# Altium integrated library NXP LPC2000.IntLib: 82 symbols (part 5 of 6)
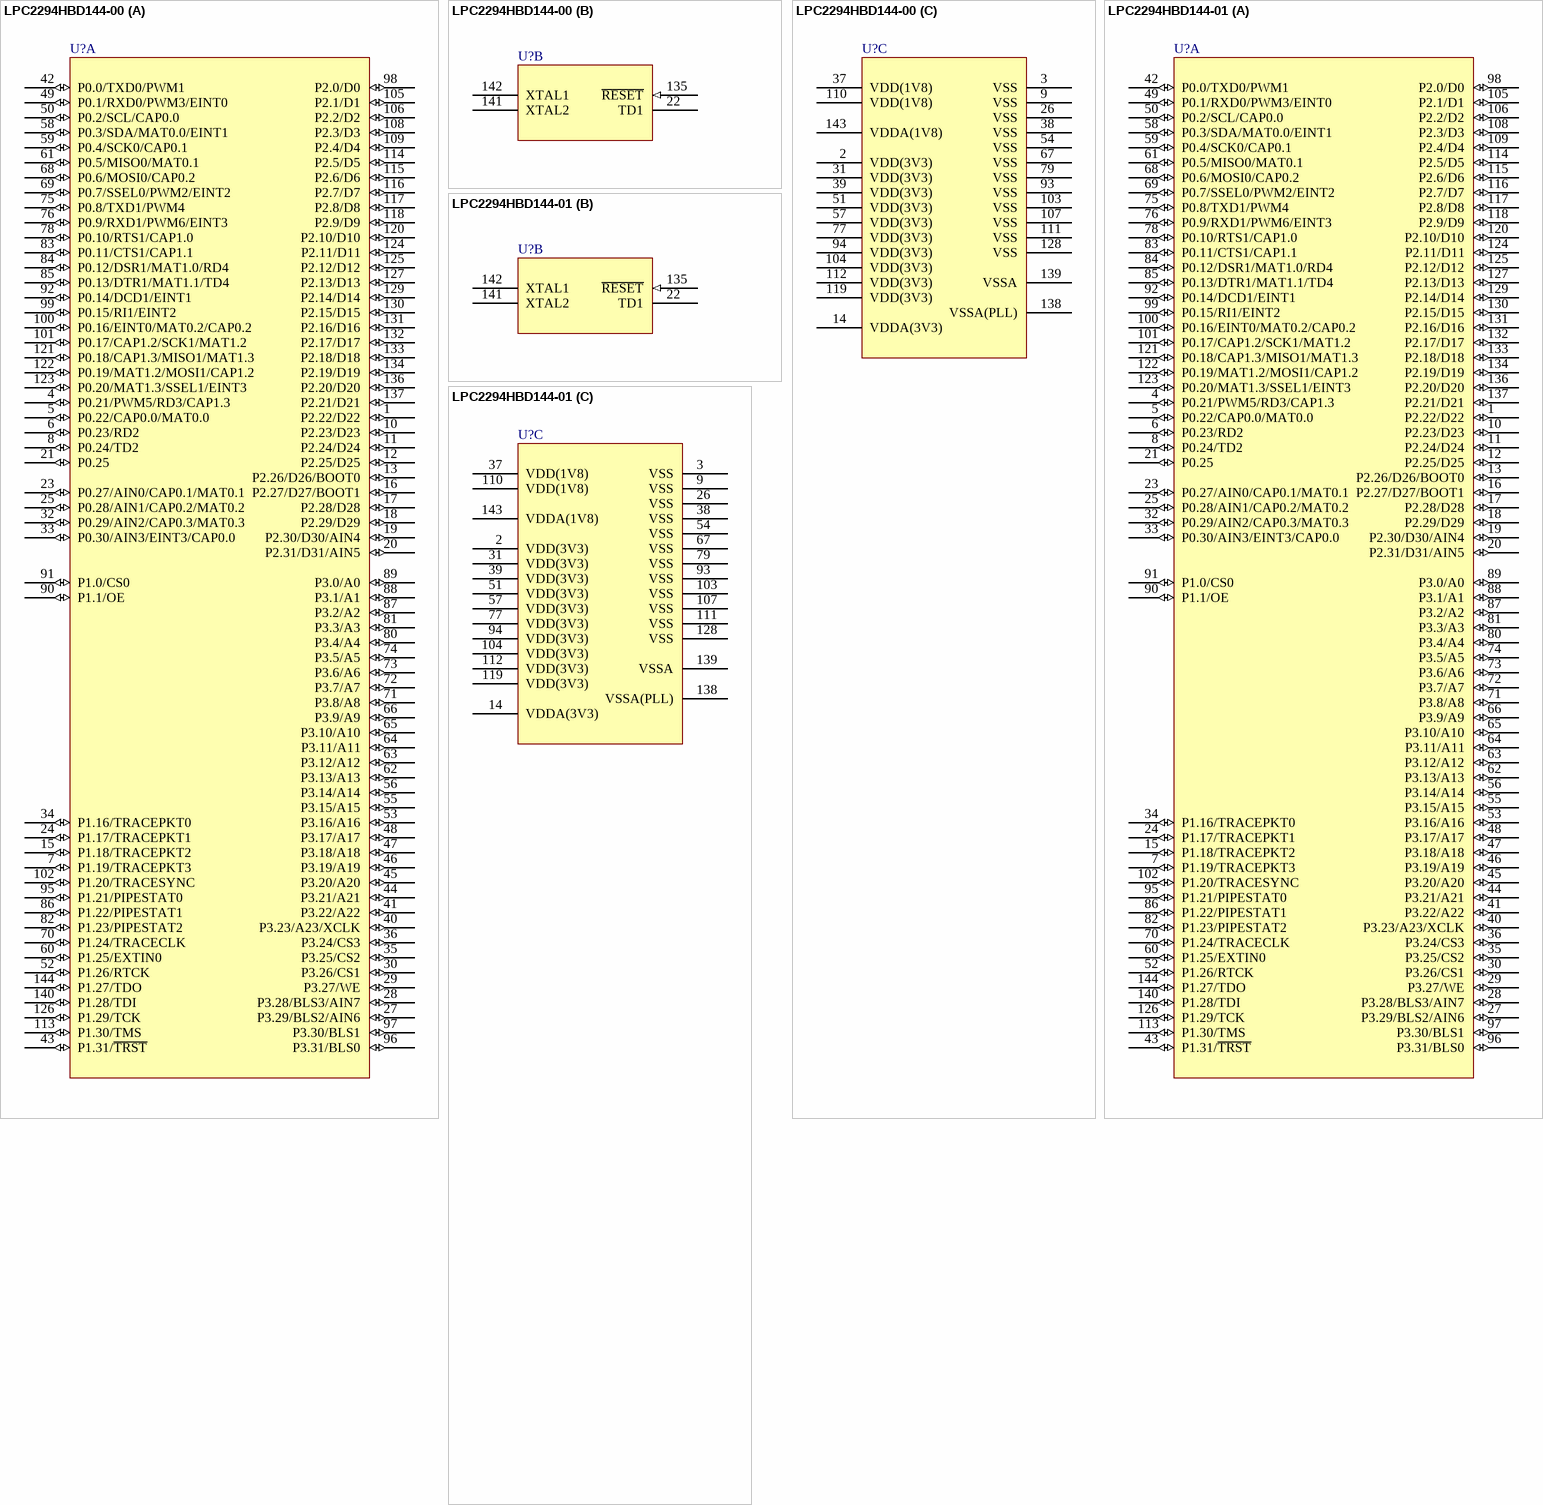
[diagram p33: symbols LPC2294HBD144-00 to LPC2294HBD144-01]

## LPC2294HBD144-00
designator U?
ARM7 16/32-Bit Microcontroller, 256KB Flash, 16KB RAM, 4 Channel CAN, 144-Lead LQFP; Code_IEC: 136E23; Published: 16-Oct-2006; DatasheetVersion: rev.06, Jul-2007; PackageVersion: Feb-2003; PackageReference: SOT486-1; Publisher: Altium Limited; PackageDescription: 144-Pin Plastic Low Profile Quad Flat Pack 0.5 mm Pitch; Code_JEDEC: MS-026; ComponentLink1Description: Manufacturer Link; ComponentLink1URL: http://www.nxp.com/; ComponentLink2Description: Datasheet; ComponentLink2URL: http://www.standardics.nxp.com/products/lpc2000/datasheet/lpc2292.lpc2294.pdf
footprint SOT486-1_N (Thin QFP, 144-Leads, Body 20x20mm, Pitch 0.5mm, IPC Medium Density)
footprint SOT486-1_L (Thin QFP, 144-Leads, Body 20x20mm, Pitch 0.5mm, IPC High Density)
footprint SOT486-1_M (Thin QFP, 144-Leads, Body 20x20mm, Pitch 0.5mm, IPC Low Density)
3D model LPC2294-QFP144 (144-Pin Plastic Low Profile Quad Flat Pack 0.5 mm Pitch)
part A pins: 1 P2.22/D22 (io), 4 P0.21/PWM5/RD3/CAP1.3 (io), 5 P0.22/CAP0.0/MAT0.0 (io), 6 P0.23/RD2 (io), 7 P1.19/TRACEPKT3 (io), 8 P0.24/TD2 (io), 10 P2.23/D23 (io), 11 P2.24/D24 (io), 12 P2.25/D25 (io), 13 P2.26/D26/BOOT0 (io), 15 P1.18/TRACEPKT2 (io), 16 P2.27/D27/BOOT1 (io), 17 P2.28/D28 (io), 18 P2.29/D29 (io), 19 P2.30/D30/AIN4 (io), 20 P2.31/D31/AIN5 (io), 21 P0.25 (io), 23 P0.27/AIN0/CAP0.1/MAT0.1 (io), 24 P1.17/TRACEPKT1 (io), 25 P0.28/AIN1/CAP0.2/MAT0.2 (io), 27 P3.29/BLS2/AIN6 (io), 28 P3.28/BLS3/AIN7 (io), 29 P3.27/WE (io), 30 P3.26/CS1 (io), 32 P0.29/AIN2/CAP0.3/MAT0.3 (io), 33 P0.30/AIN3/EINT3/CAP0.0 (io), 34 P1.16/TRACEPKT0 (io), 35 P3.25/CS2 (io), 36 P3.24/CS3 (io), 40 P3.23/A23/XCLK (io), 41 P3.22/A22 (io), 42 P0.0/TXD0/PWM1 (io), 43 P1.31/~{TRST} (io), 44 P3.21/A21 (io), 45 P3.20/A20 (io), 46 P3.19/A19 (io), 47 P3.18/A18 (io), 48 P3.17/A17 (io), 49 P0.1/RXD0/PWM3/EINT0 (io), 50 P0.2/SCL/CAP0.0 (io), 52 P1.26/RTCK (io), 53 P3.16/A16 (io), 55 P3.15/A15 (io), 56 P3.14/A14 (io), 58 P0.3/SDA/MAT0.0/EINT1 (io), 59 P0.4/SCK0/CAP0.1 (io), 60 P1.25/EXTIN0 (io), 61 P0.5/MISO0/MAT0.1 (io), 62 P3.13/A13 (io), 63 P3.12/A12 (io), 64 P3.11/A11 (io), 65 P3.10/A10 (io), 66 P3.9/A9 (io), 68 P0.6/MOSI0/CAP0.2 (io), 69 P0.7/SSEL0/PWM2/EINT2 (io), 70 P1.24/TRACECLK (io), 71 P3.8/A8 (io), 72 P3.7/A7 (io), 73 P3.6/A6 (io), 74 P3.5/A5 (io), 75 P0.8/TXD1/PWM4 (io), 76 P0.9/RXD1/PWM6/EINT3 (io), 78 P0.10/RTS1/CAP1.0 (io), 80 P3.4/A4 (io), 81 P3.3/A3 (io), 82 P1.23/PIPESTAT2 (io), 83 P0.11/CTS1/CAP1.1 (io), 84 P0.12/DSR1/MAT1.0/RD4 (io), 85 P0.13/DTR1/MAT1.1/TD4 (io), 86 P1.22/PIPESTAT1 (io), 87 P3.2/A2 (io), 88 P3.1/A1 (io), 89 P3.0/A0 (io), 90 P1.1/OE (io), 91 P1.0/CS0 (io), 92 P0.14/DCD1/EINT1 (io), 95 P1.21/PIPESTAT0 (io), 96 P3.31/BLS0 (io), 97 P3.30/BLS1 (io), 98 P2.0/D0 (io), 99 P0.15/RI1/EINT2 (io), 100 P0.16/EINT0/MAT0.2/CAP0.2 (io), 101 P0.17/CAP1.2/SCK1/MAT1.2 (io), 102 P1.20/TRACESYNC (io), 105 P2.1/D1 (io), 106 P2.2/D2 (io), 108 P2.3/D3 (io), 109 P2.4/D4 (io), 113 P1.30/TMS (io), 114 P2.5/D5 (io), 115 P2.6/D6 (io), 116 P2.7/D7 (io), 117 P2.8/D8 (io), 118 P2.9/D9 (io), 120 P2.10/D10 (io), 121 P0.18/CAP1.3/MISO1/MAT1.3 (io), 122 P0.19/MAT1.2/MOSI1/CAP1.2 (io), 123 P0.20/MAT1.3/SSEL1/EINT3 (io), 124 P2.11/D11 (io), 125 P2.12/D12 (io), 126 P1.29/TCK (io), 127 P2.13/D13 (io), 129 P2.14/D14 (io), 130 P2.15/D15 (io), 131 P2.16/D16 (io), 132 P2.17/D17 (io), 133 P2.18/D18 (io), 134 P2.19/D19 (io), 136 P2.20/D20 (io), 137 P2.21/D21 (io), 140 P1.28/TDI (io), 144 P1.27/TDO (io)
part B pins: 22 TD1, 135 ~{RESET} (in), 141 XTAL2, 142 XTAL1
part C pins: 2 VDD(3V3) (power), 3 VSS (power), 9 VSS (power), 14 VDDA(3V3) (power), 26 VSS (power), 31 VDD(3V3) (power), 37 VDD(1V8) (power), 38 VSS (power), 39 VDD(3V3) (power), 51 VDD(3V3) (power), 54 VSS (power), 57 VDD(3V3) (power), 67 VSS (power), 77 VDD(3V3) (power), 79 VSS (power), 93 VSS (power), 94 VDD(3V3) (power), 103 VSS (power), 104 VDD(3V3) (power), 107 VSS (power), 110 VDD(1V8) (power), 111 VSS (power), 112 VDD(3V3) (power), 119 VDD(3V3) (power), 128 VSS (power), 138 VSSA(PLL) (power), 139 VSSA (power), 143 VDDA(1V8) (power)

## LPC2294HBD144-01
designator U?
ARM7 16/32-Bit Microcontroller, 256KB Flash, 16KB RAM, 4 Channel CAN, Fast GPIO/SSP/Enhanced UART, ADC, Timer, 144-Lead LQFP; Code_IEC: 136E23; Published: 17-Aug-2007; DatasheetVersion: rev.06, Jul-2007; PackageVersion: Feb-2003; PackageReference: SOT486-1; Publisher: Altium Limited; PackageDescription: 144-Pin Plastic Low Profile Quad Flat Pack 0.5 mm Pitch; Code_JEDEC: MS-026; ComponentLink1Description: Manufacturer Link; ComponentLink1URL: http://www.nxp.com/; ComponentLink2Description: Datasheet; ComponentLink2URL: http://www.standardics.nxp.com/products/lpc2000/datasheet/lpc2292.lpc2294.pdf
footprint SOT486-1_N (Thin QFP, 144-Leads, Body 20x20mm, Pitch 0.5mm, IPC Medium Density)
footprint SOT486-1_L (Thin QFP, 144-Leads, Body 20x20mm, Pitch 0.5mm, IPC High Density)
footprint SOT486-1_M (Thin QFP, 144-Leads, Body 20x20mm, Pitch 0.5mm, IPC Low Density)
3D model LPC2294-QFP144 (144-Pin Plastic Low Profile Quad Flat Pack 0.5 mm Pitch)
part A pins: 1 P2.22/D22 (io), 4 P0.21/PWM5/RD3/CAP1.3 (io), 5 P0.22/CAP0.0/MAT0.0 (io), 6 P0.23/RD2 (io), 7 P1.19/TRACEPKT3 (io), 8 P0.24/TD2 (io), 10 P2.23/D23 (io), 11 P2.24/D24 (io), 12 P2.25/D25 (io), 13 P2.26/D26/BOOT0 (io), 15 P1.18/TRACEPKT2 (io), 16 P2.27/D27/BOOT1 (io), 17 P2.28/D28 (io), 18 P2.29/D29 (io), 19 P2.30/D30/AIN4 (io), 20 P2.31/D31/AIN5 (io), 21 P0.25 (io), 23 P0.27/AIN0/CAP0.1/MAT0.1 (io), 24 P1.17/TRACEPKT1 (io), 25 P0.28/AIN1/CAP0.2/MAT0.2 (io), 27 P3.29/BLS2/AIN6 (io), 28 P3.28/BLS3/AIN7 (io), 29 P3.27/WE (io), 30 P3.26/CS1 (io), 32 P0.29/AIN2/CAP0.3/MAT0.3 (io), 33 P0.30/AIN3/EINT3/CAP0.0 (io), 34 P1.16/TRACEPKT0 (io), 35 P3.25/CS2 (io), 36 P3.24/CS3 (io), 40 P3.23/A23/XCLK (io), 41 P3.22/A22 (io), 42 P0.0/TXD0/PWM1 (io), 43 P1.31/~{TRST} (io), 44 P3.21/A21 (io), 45 P3.20/A20 (io), 46 P3.19/A19 (io), 47 P3.18/A18 (io), 48 P3.17/A17 (io), 49 P0.1/RXD0/PWM3/EINT0 (io), 50 P0.2/SCL/CAP0.0 (io), 52 P1.26/RTCK (io), 53 P3.16/A16 (io), 55 P3.15/A15 (io), 56 P3.14/A14 (io), 58 P0.3/SDA/MAT0.0/EINT1 (io), 59 P0.4/SCK0/CAP0.1 (io), 60 P1.25/EXTIN0 (io), 61 P0.5/MISO0/MAT0.1 (io), 62 P3.13/A13 (io), 63 P3.12/A12 (io), 64 P3.11/A11 (io), 65 P3.10/A10 (io), 66 P3.9/A9 (io), 68 P0.6/MOSI0/CAP0.2 (io), 69 P0.7/SSEL0/PWM2/EINT2 (io), 70 P1.24/TRACECLK (io), 71 P3.8/A8 (io), 72 P3.7/A7 (io), 73 P3.6/A6 (io), 74 P3.5/A5 (io), 75 P0.8/TXD1/PWM4 (io), 76 P0.9/RXD1/PWM6/EINT3 (io), 78 P0.10/RTS1/CAP1.0 (io), 80 P3.4/A4 (io), 81 P3.3/A3 (io), 82 P1.23/PIPESTAT2 (io), 83 P0.11/CTS1/CAP1.1 (io), 84 P0.12/DSR1/MAT1.0/RD4 (io), 85 P0.13/DTR1/MAT1.1/TD4 (io), 86 P1.22/PIPESTAT1 (io), 87 P3.2/A2 (io), 88 P3.1/A1 (io), 89 P3.0/A0 (io), 90 P1.1/OE (io), 91 P1.0/CS0 (io), 92 P0.14/DCD1/EINT1 (io), 95 P1.21/PIPESTAT0 (io), 96 P3.31/BLS0 (io), 97 P3.30/BLS1 (io), 98 P2.0/D0 (io), 99 P0.15/RI1/EINT2 (io), 100 P0.16/EINT0/MAT0.2/CAP0.2 (io), 101 P0.17/CAP1.2/SCK1/MAT1.2 (io), 102 P1.20/TRACESYNC (io), 105 P2.1/D1 (io), 106 P2.2/D2 (io), 108 P2.3/D3 (io), 109 P2.4/D4 (io), 113 P1.30/TMS (io), 114 P2.5/D5 (io), 115 P2.6/D6 (io), 116 P2.7/D7 (io), 117 P2.8/D8 (io), 118 P2.9/D9 (io), 120 P2.10/D10 (io), 121 P0.18/CAP1.3/MISO1/MAT1.3 (io), 122 P0.19/MAT1.2/MOSI1/CAP1.2 (io), 123 P0.20/MAT1.3/SSEL1/EINT3 (io), 124 P2.11/D11 (io), 125 P2.12/D12 (io), 126 P1.29/TCK (io), 127 P2.13/D13 (io), 129 P2.14/D14 (io), 130 P2.15/D15 (io), 131 P2.16/D16 (io), 132 P2.17/D17 (io), 133 P2.18/D18 (io), 134 P2.19/D19 (io), 136 P2.20/D20 (io), 137 P2.21/D21 (io), 140 P1.28/TDI (io), 144 P1.27/TDO (io)
part B pins: 22 TD1, 135 ~{RESET} (in), 141 XTAL2, 142 XTAL1
part C pins: 2 VDD(3V3) (power), 3 VSS (power), 9 VSS (power), 14 VDDA(3V3) (power), 26 VSS (power), 31 VDD(3V3) (power), 37 VDD(1V8) (power), 38 VSS (power), 39 VDD(3V3) (power), 51 VDD(3V3) (power), 54 VSS (power), 57 VDD(3V3) (power), 67 VSS (power), 77 VDD(3V3) (power), 79 VSS (power), 93 VSS (power), 94 VDD(3V3) (power), 103 VSS (power), 104 VDD(3V3) (power), 107 VSS (power), 110 VDD(1V8) (power), 111 VSS (power), 112 VDD(3V3) (power), 119 VDD(3V3) (power), 128 VSS (power), 138 VSSA(PLL) (power), 139 VSSA (power), 143 VDDA(1V8) (power)

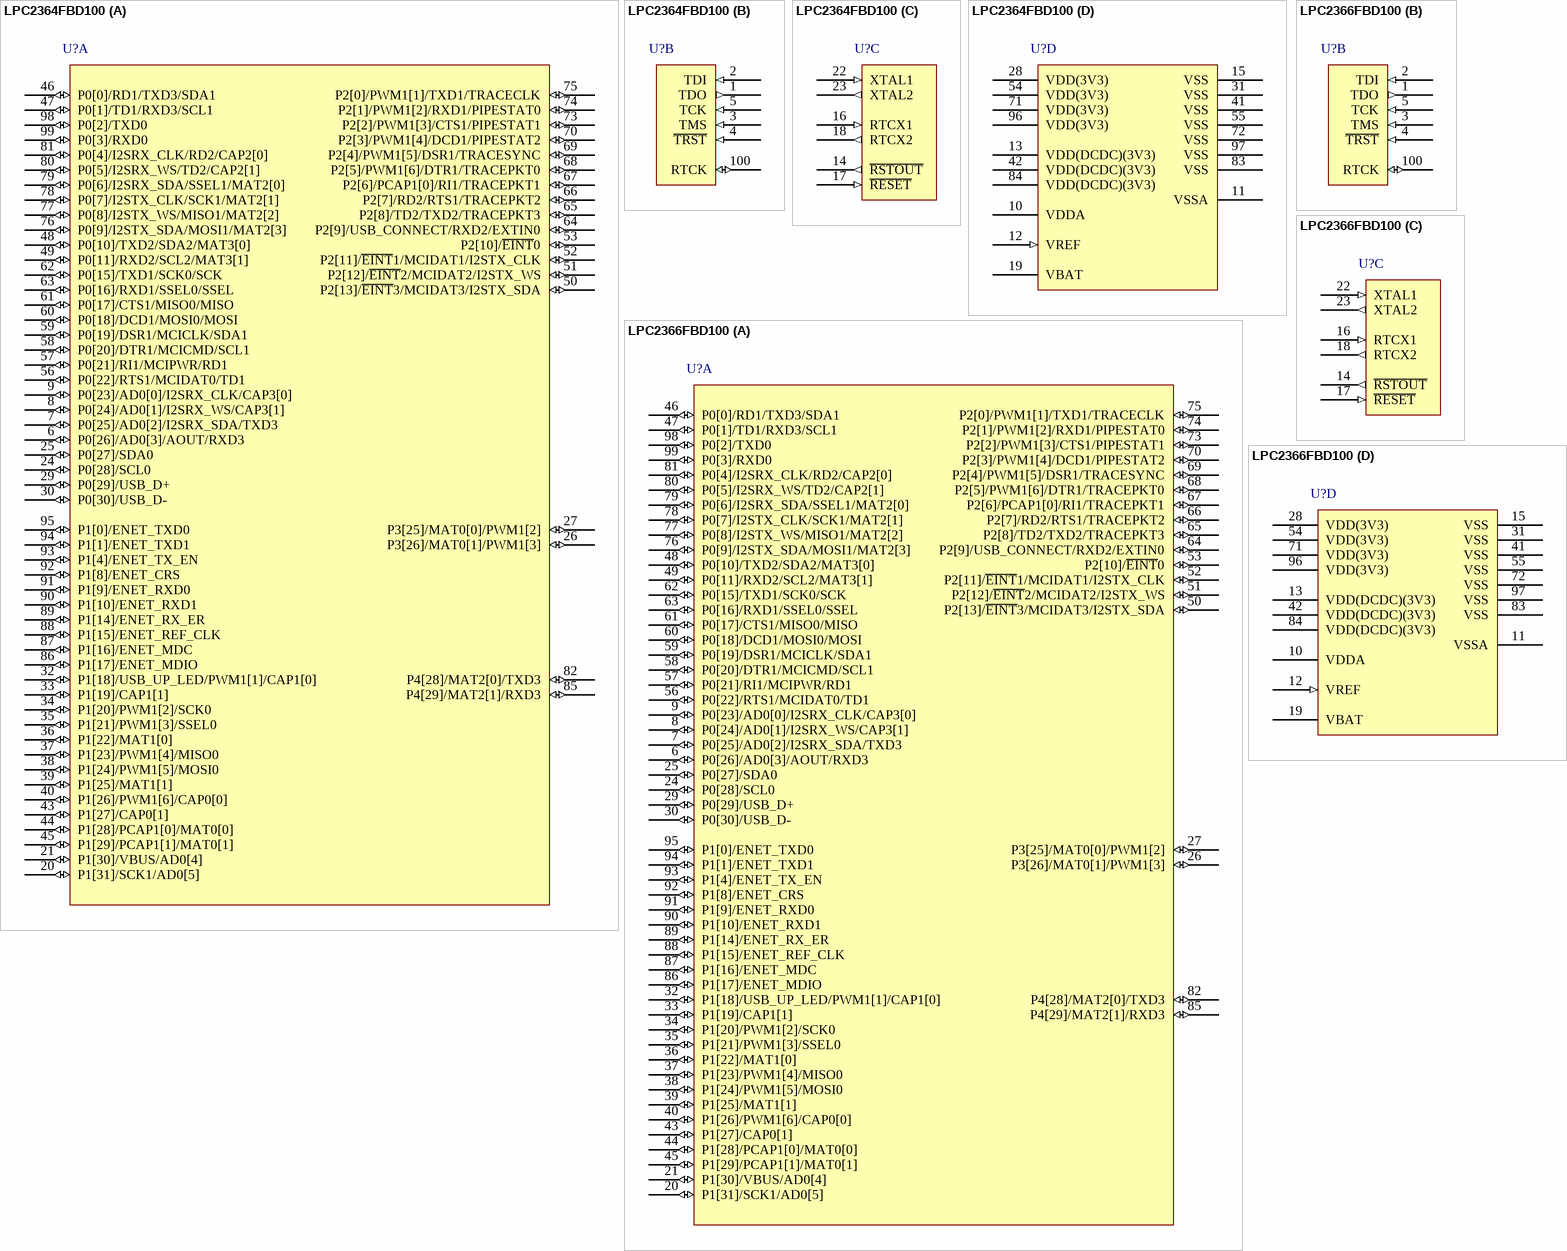
[diagram p22: symbols LPC2364FBD100 to LPC2366FBD100]

## LPC2364FBD100
designator U?
ARM7 16/32-Bit Microcontroller, 128KB Flash, 34KB RAM, 4 Channel CAN, 100-Lead LQFP; Code_IEC: 136E20; Published: 17-Aug-2007; DatasheetVersion: rev.01, Jan-2007; PackageVersion: Feb-2003; PackageReference: SOT407-1; Publisher: Altium Limited; PackageDescription: 100-Pin Plastic Low Profile Quad Flat Pack, LQFP100; Code_JEDEC: MS-026; ComponentLink1Description: Manufacturer Link; ComponentLink1URL: http://www.nxp.com/; ComponentLink2Description: Datasheet; ComponentLink2URL: http://www.standardics.nxp.com/products/lpc2000/datasheet/lpc2364.lpc2366.lpc2368.pdf
footprint SOT407-1_N (Thin QFP, 100-Leads, Body 14x14mm, Pitch 0.5mm, IPC Medium Density)
footprint SOT407-1_L (Thin QFP, 100-Leads, Body 14x14mm, Pitch 0.5mm, IPC High Density)
footprint SOT407-1_M (Thin QFP, 100-Leads, Body 14x14mm, Pitch 0.5mm, IPC Low Density)
3D model LPC2364-QFP100 (100-Pin Plastic Low Profile Quad Flat Pack, LQFP100)
part A pins: 6 P0[26]/AD0[3]/AOUT/RXD3 (io), 7 P0[25]/AD0[2]/I2SRX_SDA/TXD3 (io), 8 P0[24]/AD0[1]/I2SRX_WS/CAP3[1] (io), 9 P0[23]/AD0[0]/I2SRX_CLK/CAP3[0] (io), 20 P1[31]/SCK1/AD0[5] (io), 21 P1[30]/VBUS/AD0[4] (io), 24 P0[28]/SCL0 (io), 25 P0[27]/SDA0 (io), 26 P3[26]/MAT0[1]/PWM1[3] (io), 27 P3[25]/MAT0[0]/PWM1[2] (io), 29 P0[29]/USB_D+ (io), 30 P0[30]/USB_D- (io), 32 P1[18]/USB_UP_LED/PWM1[1]/CAP1[0] (io), 33 P1[19]/CAP1[1] (io), 34 P1[20]/PWM1[2]/SCK0 (io), 35 P1[21]/PWM1[3]/SSEL0 (io), 36 P1[22]/MAT1[0] (io), 37 P1[23]/PWM1[4]/MISO0 (io), 38 P1[24]/PWM1[5]/MOSI0 (io), 39 P1[25]/MAT1[1] (io), 40 P1[26]/PWM1[6]/CAP0[0] (io), 43 P1[27]/CAP0[1] (io), 44 P1[28]/PCAP1[0]/MAT0[0] (io), 45 P1[29]/PCAP1[1]/MAT0[1] (io), 46 P0[0]/RD1/TXD3/SDA1 (io), 47 P0[1]/TD1/RXD3/SCL1 (io), 48 P0[10]/TXD2/SDA2/MAT3[0] (io), 49 P0[11]/RXD2/SCL2/MAT3[1] (io), 50 P2[13]/~{EINT}3/MCIDAT3/I2STX_SDA (io), 51 P2[12]/~{EINT}2/MCIDAT2/I2STX_WS (io), 52 P2[11]/~{EINT}1/MCIDAT1/I2STX_CLK (io), 53 P2[10]/~{EINT}0 (io), 56 P0[22]/RTS1/MCIDAT0/TD1 (io), 57 P0[21]/RI1/MCIPWR/RD1 (io), 58 P0[20]/DTR1/MCICMD/SCL1 (io), 59 P0[19]/DSR1/MCICLK/SDA1 (io), 60 P0[18]/DCD1/MOSI0/MOSI (io), 61 P0[17]/CTS1/MISO0/MISO (io), 62 P0[15]/TXD1/SCK0/SCK (io), 63 P0[16]/RXD1/SSEL0/SSEL (io), 64 P2[9]/USB_CONNECT/RXD2/EXTIN0 (io), 65 P2[8]/TD2/TXD2/TRACEPKT3 (io), 66 P2[7]/RD2/RTS1/TRACEPKT2 (io), 67 P2[6]/PCAP1[0]/RI1/TRACEPKT1 (io), 68 P2[5]/PWM1[6]/DTR1/TRACEPKT0 (io), 69 P2[4]/PWM1[5]/DSR1/TRACESYNC (io), 70 P2[3]/PWM1[4]/DCD1/PIPESTAT2 (io), 73 P2[2]/PWM1[3]/CTS1/PIPESTAT1 (io), 74 P2[1]/PWM1[2]/RXD1/PIPESTAT0 (io), 75 P2[0]/PWM1[1]/TXD1/TRACECLK (io), 76 P0[9]/I2STX_SDA/MOSI1/MAT2[3] (io), 77 P0[8]/I2STX_WS/MISO1/MAT2[2] (io), 78 P0[7]/I2STX_CLK/SCK1/MAT2[1] (io), 79 P0[6]/I2SRX_SDA/SSEL1/MAT2[0] (io), 80 P0[5]/I2SRX_WS/TD2/CAP2[1] (io), 81 P0[4]/I2SRX_CLK/RD2/CAP2[0] (io), 82 P4[28]/MAT2[0]/TXD3 (io), 85 P4[29]/MAT2[1]/RXD3 (io), 86 P1[17]/ENET_MDIO (io), 87 P1[16]/ENET_MDC (io), 88 P1[15]/ENET_REF_CLK (io), 89 P1[14]/ENET_RX_ER (io), 90 P1[10]/ENET_RXD1 (io), 91 P1[9]/ENET_RXD0 (io), 92 P1[8]/ENET_CRS (io), 93 P1[4]/ENET_TX_EN (io), 94 P1[1]/ENET_TXD1 (io), 95 P1[0]/ENET_TXD0 (io), 98 P0[2]/TXD0 (io), 99 P0[3]/RXD0 (io)
part B pins: 1 TDO (out), 2 TDI (in), 3 TMS (in), 4 ~{TRST} (in), 5 TCK (in), 100 RTCK (io)
part C pins: 14 ~{RSTOUT} (out), 16 RTCX1 (in), 17 ~{RESET} (in), 18 RTCX2 (out), 22 XTAL1 (in), 23 XTAL2 (out)
part D pins: 10 VDDA (power), 11 VSSA (power), 12 VREF (in), 13 VDD(DCDC)(3V3) (power), 15 VSS (power), 19 VBAT (power), 28 VDD(3V3) (power), 31 VSS (power), 41 VSS (power), 42 VDD(DCDC)(3V3) (power), 54 VDD(3V3) (power), 55 VSS (power), 71 VDD(3V3) (power), 72 VSS (power), 83 VSS (power), 84 VDD(DCDC)(3V3) (power), 96 VDD(3V3) (power), 97 VSS (power)

## LPC2366FBD100
designator U?
ARM7 16/32-Bit Microcontroller, 256KB Flash, 58KB RAM, 4 Channel CAN, 100-Lead LQFP; Code_IEC: 136E20; Published: 17-Aug-2007; DatasheetVersion: rev.01, Jan-2007; PackageVersion: Feb-2003; PackageReference: SOT407-1; Publisher: Altium Limited; PackageDescription: 100-Pin Plastic Low Profile Quad Flat Pack, LQFP100; Code_JEDEC: MS-026; ComponentLink1Description: Manufacturer Link; ComponentLink1URL: http://www.nxp.com/; ComponentLink2Description: Datasheet; ComponentLink2URL: http://www.standardics.nxp.com/products/lpc2000/datasheet/lpc2364.lpc2366.lpc2368.pdf
footprint SOT407-1_N (Thin QFP, 100-Leads, Body 14x14mm, Pitch 0.5mm, IPC Medium Density)
footprint SOT407-1_L (Thin QFP, 100-Leads, Body 14x14mm, Pitch 0.5mm, IPC High Density)
footprint SOT407-1_M (Thin QFP, 100-Leads, Body 14x14mm, Pitch 0.5mm, IPC Low Density)
3D model LPC2366-QFP100 (100-Pin Plastic Low Profile Quad Flat Pack, LQFP100)
part A pins: 6 P0[26]/AD0[3]/AOUT/RXD3 (io), 7 P0[25]/AD0[2]/I2SRX_SDA/TXD3 (io), 8 P0[24]/AD0[1]/I2SRX_WS/CAP3[1] (io), 9 P0[23]/AD0[0]/I2SRX_CLK/CAP3[0] (io), 20 P1[31]/SCK1/AD0[5] (io), 21 P1[30]/VBUS/AD0[4] (io), 24 P0[28]/SCL0 (io), 25 P0[27]/SDA0 (io), 26 P3[26]/MAT0[1]/PWM1[3] (io), 27 P3[25]/MAT0[0]/PWM1[2] (io), 29 P0[29]/USB_D+ (io), 30 P0[30]/USB_D- (io), 32 P1[18]/USB_UP_LED/PWM1[1]/CAP1[0] (io), 33 P1[19]/CAP1[1] (io), 34 P1[20]/PWM1[2]/SCK0 (io), 35 P1[21]/PWM1[3]/SSEL0 (io), 36 P1[22]/MAT1[0] (io), 37 P1[23]/PWM1[4]/MISO0 (io), 38 P1[24]/PWM1[5]/MOSI0 (io), 39 P1[25]/MAT1[1] (io), 40 P1[26]/PWM1[6]/CAP0[0] (io), 43 P1[27]/CAP0[1] (io), 44 P1[28]/PCAP1[0]/MAT0[0] (io), 45 P1[29]/PCAP1[1]/MAT0[1] (io), 46 P0[0]/RD1/TXD3/SDA1 (io), 47 P0[1]/TD1/RXD3/SCL1 (io), 48 P0[10]/TXD2/SDA2/MAT3[0] (io), 49 P0[11]/RXD2/SCL2/MAT3[1] (io), 50 P2[13]/~{EINT}3/MCIDAT3/I2STX_SDA (io), 51 P2[12]/~{EINT}2/MCIDAT2/I2STX_WS (io), 52 P2[11]/~{EINT}1/MCIDAT1/I2STX_CLK (io), 53 P2[10]/~{EINT}0 (io), 56 P0[22]/RTS1/MCIDAT0/TD1 (io), 57 P0[21]/RI1/MCIPWR/RD1 (io), 58 P0[20]/DTR1/MCICMD/SCL1 (io), 59 P0[19]/DSR1/MCICLK/SDA1 (io), 60 P0[18]/DCD1/MOSI0/MOSI (io), 61 P0[17]/CTS1/MISO0/MISO (io), 62 P0[15]/TXD1/SCK0/SCK (io), 63 P0[16]/RXD1/SSEL0/SSEL (io), 64 P2[9]/USB_CONNECT/RXD2/EXTIN0 (io), 65 P2[8]/TD2/TXD2/TRACEPKT3 (io), 66 P2[7]/RD2/RTS1/TRACEPKT2 (io), 67 P2[6]/PCAP1[0]/RI1/TRACEPKT1 (io), 68 P2[5]/PWM1[6]/DTR1/TRACEPKT0 (io), 69 P2[4]/PWM1[5]/DSR1/TRACESYNC (io), 70 P2[3]/PWM1[4]/DCD1/PIPESTAT2 (io), 73 P2[2]/PWM1[3]/CTS1/PIPESTAT1 (io), 74 P2[1]/PWM1[2]/RXD1/PIPESTAT0 (io), 75 P2[0]/PWM1[1]/TXD1/TRACECLK (io), 76 P0[9]/I2STX_SDA/MOSI1/MAT2[3] (io), 77 P0[8]/I2STX_WS/MISO1/MAT2[2] (io), 78 P0[7]/I2STX_CLK/SCK1/MAT2[1] (io), 79 P0[6]/I2SRX_SDA/SSEL1/MAT2[0] (io), 80 P0[5]/I2SRX_WS/TD2/CAP2[1] (io), 81 P0[4]/I2SRX_CLK/RD2/CAP2[0] (io), 82 P4[28]/MAT2[0]/TXD3 (io), 85 P4[29]/MAT2[1]/RXD3 (io), 86 P1[17]/ENET_MDIO (io), 87 P1[16]/ENET_MDC (io), 88 P1[15]/ENET_REF_CLK (io), 89 P1[14]/ENET_RX_ER (io), 90 P1[10]/ENET_RXD1 (io), 91 P1[9]/ENET_RXD0 (io), 92 P1[8]/ENET_CRS (io), 93 P1[4]/ENET_TX_EN (io), 94 P1[1]/ENET_TXD1 (io), 95 P1[0]/ENET_TXD0 (io), 98 P0[2]/TXD0 (io), 99 P0[3]/RXD0 (io)
part B pins: 1 TDO (out), 2 TDI (in), 3 TMS (in), 4 ~{TRST} (in), 5 TCK (in), 100 RTCK (io)
part C pins: 14 ~{RSTOUT} (out), 16 RTCX1 (in), 17 ~{RESET} (in), 18 RTCX2 (out), 22 XTAL1 (in), 23 XTAL2 (out)
part D pins: 10 VDDA (power), 11 VSSA (power), 12 VREF (in), 13 VDD(DCDC)(3V3) (power), 15 VSS (power), 19 VBAT (power), 28 VDD(3V3) (power), 31 VSS (power), 41 VSS (power), 42 VDD(DCDC)(3V3) (power), 54 VDD(3V3) (power), 55 VSS (power), 71 VDD(3V3) (power), 72 VSS (power), 83 VSS (power), 84 VDD(DCDC)(3V3) (power), 96 VDD(3V3) (power), 97 VSS (power)

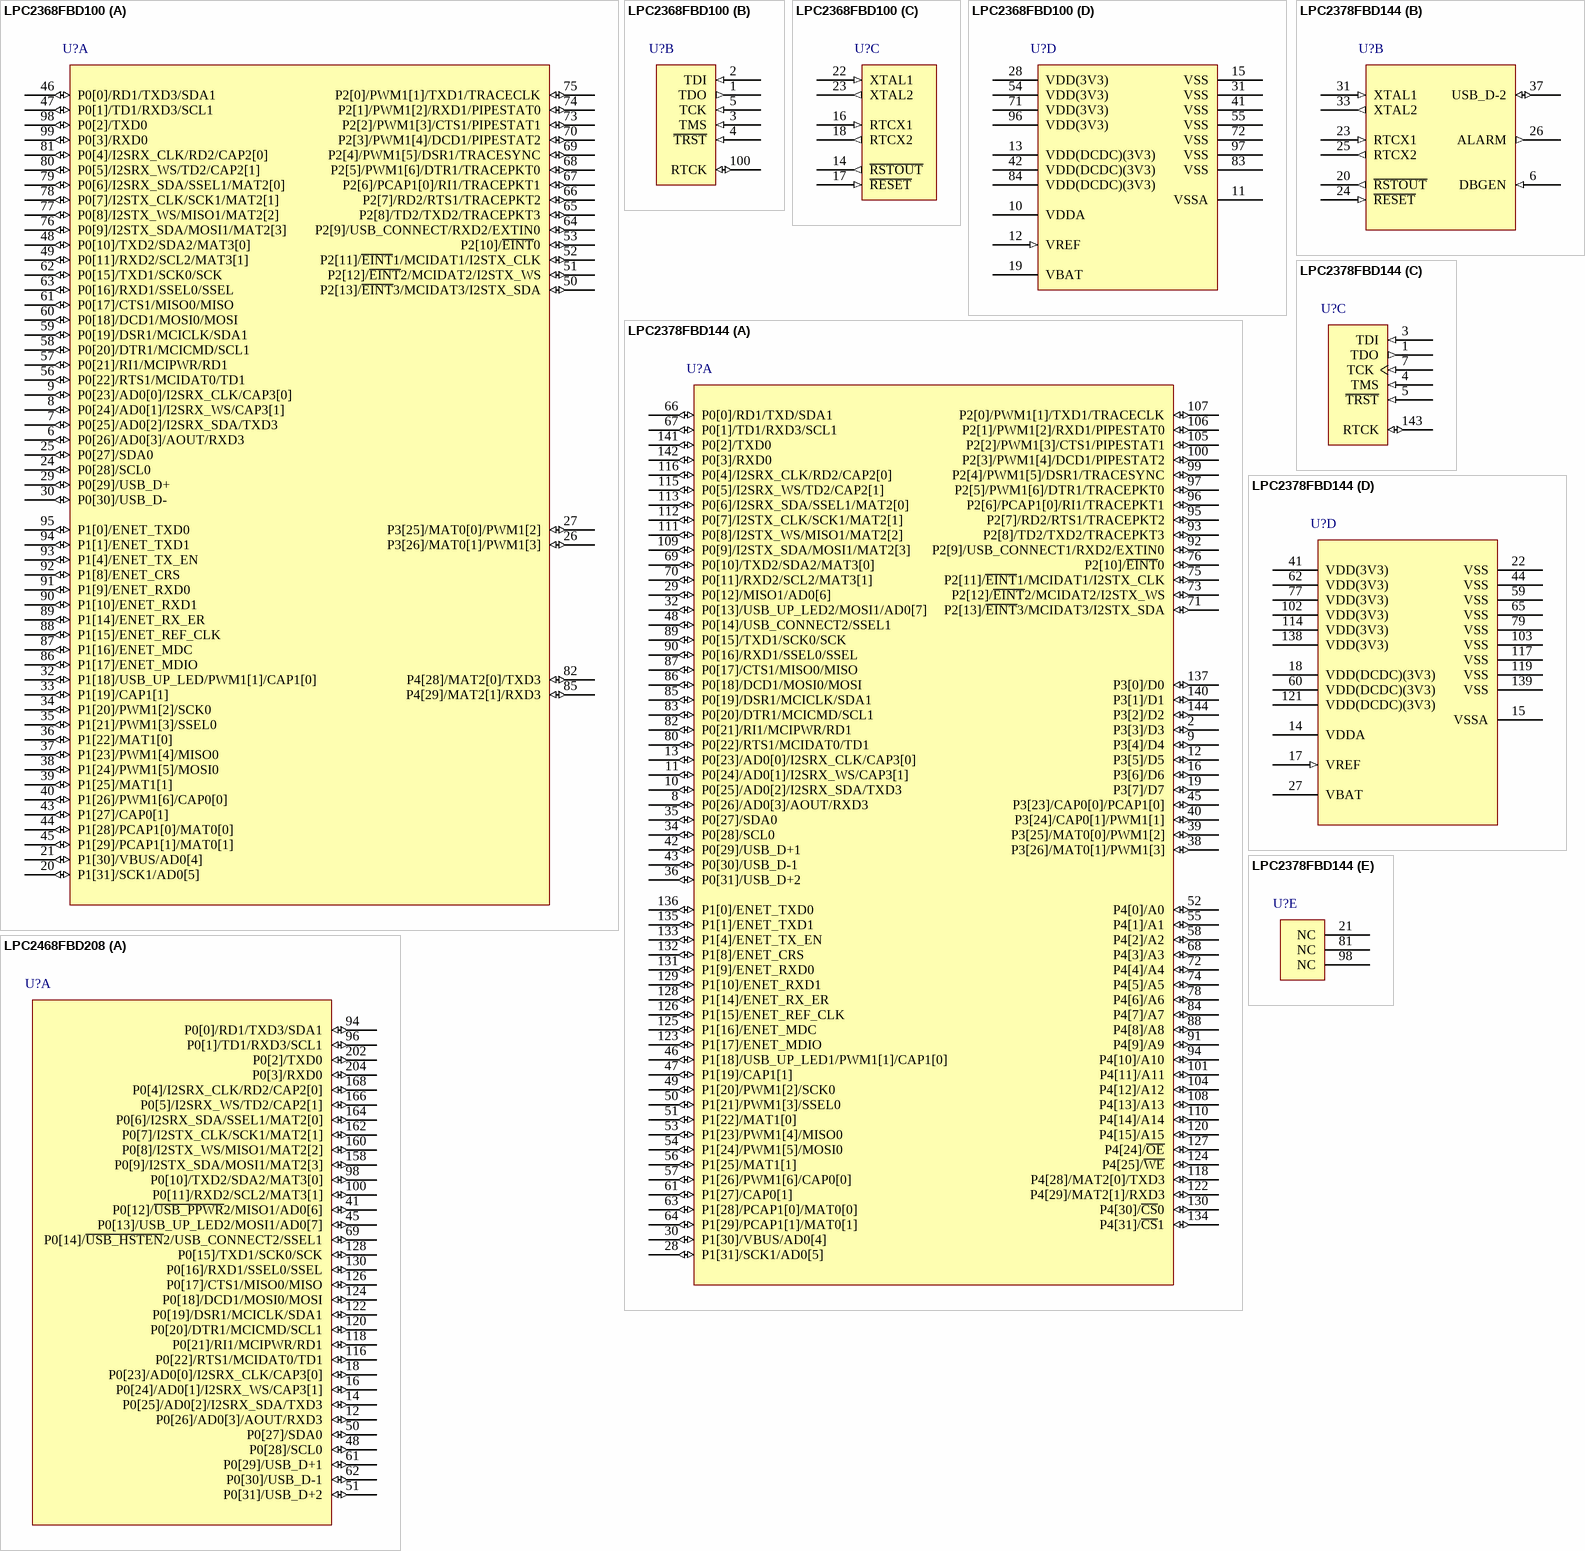
[diagram p23: symbols LPC2368FBD100 to LPC2468FBD208]

## LPC2368FBD100
designator U?
ARM7 16/32-Bit Microcontroller, 512KB Flash, 58KB RAM, 4 Channel CAN, 100-Lead LQFP; Code_IEC: 136E20; Published: 17-Aug-2007; DatasheetVersion: rev.01, Jan-2007; PackageVersion: Feb-2003; PackageReference: SOT407-1; Publisher: Altium Limited; PackageDescription: 100-Pin Plastic Low Profile Quad Flat Pack, LQFP100; Code_JEDEC: MS-026; ComponentLink1Description: Manufacturer Link; ComponentLink1URL: http://www.nxp.com/; ComponentLink2Description: Datasheet; ComponentLink2URL: http://www.standardics.nxp.com/products/lpc2000/datasheet/lpc2364.lpc2366.lpc2368.pdf
footprint SOT407-1_N (Thin QFP, 100-Leads, Body 14x14mm, Pitch 0.5mm, IPC Medium Density)
footprint SOT407-1_L (Thin QFP, 100-Leads, Body 14x14mm, Pitch 0.5mm, IPC High Density)
footprint SOT407-1_M (Thin QFP, 100-Leads, Body 14x14mm, Pitch 0.5mm, IPC Low Density)
3D model LPC2368-QFP100 (100-Pin Plastic Low Profile Quad Flat Pack, LQFP100)
part A pins: 6 P0[26]/AD0[3]/AOUT/RXD3 (io), 7 P0[25]/AD0[2]/I2SRX_SDA/TXD3 (io), 8 P0[24]/AD0[1]/I2SRX_WS/CAP3[1] (io), 9 P0[23]/AD0[0]/I2SRX_CLK/CAP3[0] (io), 20 P1[31]/SCK1/AD0[5] (io), 21 P1[30]/VBUS/AD0[4] (io), 24 P0[28]/SCL0 (io), 25 P0[27]/SDA0 (io), 26 P3[26]/MAT0[1]/PWM1[3] (io), 27 P3[25]/MAT0[0]/PWM1[2] (io), 29 P0[29]/USB_D+ (io), 30 P0[30]/USB_D- (io), 32 P1[18]/USB_UP_LED/PWM1[1]/CAP1[0] (io), 33 P1[19]/CAP1[1] (io), 34 P1[20]/PWM1[2]/SCK0 (io), 35 P1[21]/PWM1[3]/SSEL0 (io), 36 P1[22]/MAT1[0] (io), 37 P1[23]/PWM1[4]/MISO0 (io), 38 P1[24]/PWM1[5]/MOSI0 (io), 39 P1[25]/MAT1[1] (io), 40 P1[26]/PWM1[6]/CAP0[0] (io), 43 P1[27]/CAP0[1] (io), 44 P1[28]/PCAP1[0]/MAT0[0] (io), 45 P1[29]/PCAP1[1]/MAT0[1] (io), 46 P0[0]/RD1/TXD3/SDA1 (io), 47 P0[1]/TD1/RXD3/SCL1 (io), 48 P0[10]/TXD2/SDA2/MAT3[0] (io), 49 P0[11]/RXD2/SCL2/MAT3[1] (io), 50 P2[13]/~{EINT}3/MCIDAT3/I2STX_SDA (io), 51 P2[12]/~{EINT}2/MCIDAT2/I2STX_WS (io), 52 P2[11]/~{EINT}1/MCIDAT1/I2STX_CLK (io), 53 P2[10]/~{EINT}0 (io), 56 P0[22]/RTS1/MCIDAT0/TD1 (io), 57 P0[21]/RI1/MCIPWR/RD1 (io), 58 P0[20]/DTR1/MCICMD/SCL1 (io), 59 P0[19]/DSR1/MCICLK/SDA1 (io), 60 P0[18]/DCD1/MOSI0/MOSI (io), 61 P0[17]/CTS1/MISO0/MISO (io), 62 P0[15]/TXD1/SCK0/SCK (io), 63 P0[16]/RXD1/SSEL0/SSEL (io), 64 P2[9]/USB_CONNECT/RXD2/EXTIN0 (io), 65 P2[8]/TD2/TXD2/TRACEPKT3 (io), 66 P2[7]/RD2/RTS1/TRACEPKT2 (io), 67 P2[6]/PCAP1[0]/RI1/TRACEPKT1 (io), 68 P2[5]/PWM1[6]/DTR1/TRACEPKT0 (io), 69 P2[4]/PWM1[5]/DSR1/TRACESYNC (io), 70 P2[3]/PWM1[4]/DCD1/PIPESTAT2 (io), 73 P2[2]/PWM1[3]/CTS1/PIPESTAT1 (io), 74 P2[1]/PWM1[2]/RXD1/PIPESTAT0 (io), 75 P2[0]/PWM1[1]/TXD1/TRACECLK (io), 76 P0[9]/I2STX_SDA/MOSI1/MAT2[3] (io), 77 P0[8]/I2STX_WS/MISO1/MAT2[2] (io), 78 P0[7]/I2STX_CLK/SCK1/MAT2[1] (io), 79 P0[6]/I2SRX_SDA/SSEL1/MAT2[0] (io), 80 P0[5]/I2SRX_WS/TD2/CAP2[1] (io), 81 P0[4]/I2SRX_CLK/RD2/CAP2[0] (io), 82 P4[28]/MAT2[0]/TXD3 (io), 85 P4[29]/MAT2[1]/RXD3 (io), 86 P1[17]/ENET_MDIO (io), 87 P1[16]/ENET_MDC (io), 88 P1[15]/ENET_REF_CLK (io), 89 P1[14]/ENET_RX_ER (io), 90 P1[10]/ENET_RXD1 (io), 91 P1[9]/ENET_RXD0 (io), 92 P1[8]/ENET_CRS (io), 93 P1[4]/ENET_TX_EN (io), 94 P1[1]/ENET_TXD1 (io), 95 P1[0]/ENET_TXD0 (io), 98 P0[2]/TXD0 (io), 99 P0[3]/RXD0 (io)
part B pins: 1 TDO (out), 2 TDI (in), 3 TMS (in), 4 ~{TRST} (in), 5 TCK (in), 100 RTCK (io)
part C pins: 14 ~{RSTOUT} (out), 16 RTCX1 (in), 17 ~{RESET} (in), 18 RTCX2 (out), 22 XTAL1 (in), 23 XTAL2 (out)
part D pins: 10 VDDA (power), 11 VSSA (power), 12 VREF (in), 13 VDD(DCDC)(3V3) (power), 15 VSS (power), 19 VBAT (power), 28 VDD(3V3) (power), 31 VSS (power), 41 VSS (power), 42 VDD(DCDC)(3V3) (power), 54 VDD(3V3) (power), 55 VSS (power), 71 VDD(3V3) (power), 72 VSS (power), 83 VSS (power), 84 VDD(DCDC)(3V3) (power), 96 VDD(3V3) (power), 97 VSS (power)

## LPC2378FBD144
designator U?
ARM7 16/32-Bit Microcontroller, 512KB Flash, 58KB RAM, 4 Channel CAN, 144-Lead LQFP; Code_IEC: 136E23; Published: 17-Aug-2007; DatasheetVersion: rev.02, May-2007; PackageVersion: Feb-2003; PackageReference: SOT486-1; Publisher: Altium Limited; PackageDescription: 144-Pin Plastic Low Profile Quad Flat Pack 0.5 mm Pitch; Code_JEDEC: MS-026; ComponentLink1Description: Manufacturer Link; ComponentLink1URL: http://www.nxp.com/; ComponentLink2Description: Datasheet; ComponentLink2URL: http://www.standardics.nxp.com/products/lpc2000/datasheet/lpc2378.pdf
footprint SOT486-1_N (Thin QFP, 144-Leads, Body 20x20mm, Pitch 0.5mm, IPC Medium Density)
footprint SOT486-1_L (Thin QFP, 144-Leads, Body 20x20mm, Pitch 0.5mm, IPC High Density)
footprint SOT486-1_M (Thin QFP, 144-Leads, Body 20x20mm, Pitch 0.5mm, IPC Low Density)
3D model LPC2378-QFP144 (144-Pin Plastic Low Profile Quad Flat Pack 0.5 mm Pitch)
part A pins: 2 P3[3]/D3 (io), 8 P0[26]/AD0[3]/AOUT/RXD3 (io), 9 P3[4]/D4 (io), 10 P0[25]/AD0[2]/I2SRX_SDA/TXD3 (io), 11 P0[24]/AD0[1]/I2SRX_WS/CAP3[1] (io), 12 P3[5]/D5 (io), 13 P0[23]/AD0[0]/I2SRX_CLK/CAP3[0] (io), 16 P3[6]/D6 (io), 19 P3[7]/D7 (io), 28 P1[31]/SCK1/AD0[5] (io), 29 P0[12]/MISO1/AD0[6] (io), 30 P1[30]/VBUS/AD0[4] (io), 32 P0[13]/USB_UP_LED2/MOSI1/AD0[7] (io), 34 P0[28]/SCL0 (io), 35 P0[27]/SDA0 (io), 36 P0[31]/USB_D+2 (io), 38 P3[26]/MAT0[1]/PWM1[3] (io), 39 P3[25]/MAT0[0]/PWM1[2] (io), 40 P3[24]/CAP0[1]/PWM1[1] (io), 42 P0[29]/USB_D+1 (io), 43 P0[30]/USB_D-1 (io), 45 P3[23]/CAP0[0]/PCAP1[0] (io), 46 P1[18]/USB_UP_LED1/PWM1[1]/CAP1[0] (io), 47 P1[19]/CAP1[1] (io), 48 P0[14]/USB_CONNECT2/SSEL1 (io), 49 P1[20]/PWM1[2]/SCK0 (io), 50 P1[21]/PWM1[3]/SSEL0 (io), 51 P1[22]/MAT1[0] (io), 52 P4[0]/A0 (io), 53 P1[23]/PWM1[4]/MISO0 (io), 54 P1[24]/PWM1[5]/MOSI0 (io), 55 P4[1]/A1 (io), 56 P1[25]/MAT1[1] (io), 57 P1[26]/PWM1[6]/CAP0[0] (io), 58 P4[2]/A2 (io), 61 P1[27]/CAP0[1] (io), 63 P1[28]/PCAP1[0]/MAT0[0] (io), 64 P1[29]/PCAP1[1]/MAT0[1] (io), 66 P0[0]/RD1/TXD/SDA1 (io), 67 P0[1]/TD1/RXD3/SCL1 (io), 68 P4[3]/A3 (io), 69 P0[10]/TXD2/SDA2/MAT3[0] (io), 70 P0[11]/RXD2/SCL2/MAT3[1] (io), 71 P2[13]/~{EINT}3/MCIDAT3/I2STX_SDA (io), 72 P4[4]/A4 (io), 73 P2[12]/~{EINT}2/MCIDAT2/I2STX_WS (io), 74 P4[5]/A5 (io), 75 P2[11]/~{EINT}1/MCIDAT1/I2STX_CLK (io), 76 P2[10]/~{EINT}0 (io), 78 P4[6]/A6 (io), 80 P0[22]/RTS1/MCIDAT0/TD1 (io), 82 P0[21]/RI1/MCIPWR/RD1 (io), 83 P0[20]/DTR1/MCICMD/SCL1 (io), 84 P4[7]/A7 (io), 85 P0[19]/DSR1/MCICLK/SDA1 (io), 86 P0[18]/DCD1/MOSI0/MOSI (io), 87 P0[17]/CTS1/MISO0/MISO (io), 88 P4[8]/A8 (io), 89 P0[15]/TXD1/SCK0/SCK (io), 90 P0[16]/RXD1/SSEL0/SSEL (io), 91 P4[9]/A9 (io), 92 P2[9]/USB_CONNECT1/RXD2/EXTIN0 (io), 93 P2[8]/TD2/TXD2/TRACEPKT3 (io), 94 P4[10]/A10 (io), 95 P2[7]/RD2/RTS1/TRACEPKT2 (io), 96 P2[6]/PCAP1[0]/RI1/TRACEPKT1 (io), 97 P2[5]/PWM1[6]/DTR1/TRACEPKT0 (io), 99 P2[4]/PWM1[5]/DSR1/TRACESYNC (io), 100 P2[3]/PWM1[4]/DCD1/PIPESTAT2 (io), 101 P4[11]/A11 (io), 104 P4[12]/A12 (io), 105 P2[2]/PWM1[3]/CTS1/PIPESTAT1 (io), 106 P2[1]/PWM1[2]/RXD1/PIPESTAT0 (io), 107 P2[0]/PWM1[1]/TXD1/TRACECLK (io), 108 P4[13]/A13 (io), 109 P0[9]/I2STX_SDA/MOSI1/MAT2[3] (io), 110 P4[14]/A14 (io), 111 P0[8]/I2STX_WS/MISO1/MAT2[2] (io), 112 P0[7]/I2STX_CLK/SCK1/MAT2[1] (io), 113 P0[6]/I2SRX_SDA/SSEL1/MAT2[0] (io), 115 P0[5]/I2SRX_WS/TD2/CAP2[1] (io), 116 P0[4]/I2SRX_CLK/RD2/CAP2[0] (io), 118 P4[28]/MAT2[0]/TXD3 (io), 120 P4[15]/A15 (io), 122 P4[29]/MAT2[1]/RXD3 (io), 123 P1[17]/ENET_MDIO (io), 124 P4[25]/~{WE} (io), 125 P1[16]/ENET_MDC (io), 126 P1[15]/ENET_REF_CLK (io), 127 P4[24]/~{OE} (io), 128 P1[14]/ENET_RX_ER (io), 129 P1[10]/ENET_RXD1 (io), 130 P4[30]/~{CS}0 (io), 131 P1[9]/ENET_RXD0 (io), 132 P1[8]/ENET_CRS (io), 133 P1[4]/ENET_TX_EN (io), 134 P4[31]/~{CS}1 (io), 135 P1[1]/ENET_TXD1 (io), 136 P1[0]/ENET_TXD0 (io), 137 P3[0]/D0 (io), 140 P3[1]/D1 (io), 141 P0[2]/TXD0 (io), 142 P0[3]/RXD0 (io), 144 P3[2]/D2 (io)
part B pins: 6 DBGEN (in), 20 ~{RSTOUT} (out), 23 RTCX1 (in), 24 ~{RESET} (in), 25 RTCX2 (out), 26 ALARM (out), 31 XTAL1 (in), 33 XTAL2 (out), 37 USB_D-2 (io)
part C pins: 1 TDO (out), 3 TDI (in), 4 TMS (in), 5 ~{TRST} (in), 7 TCK (in), 143 RTCK (io)
part D pins: 14 VDDA (power), 15 VSSA (power), 17 VREF (in), 18 VDD(DCDC)(3V3) (power), 22 VSS (power), 27 VBAT (power), 41 VDD(3V3) (power), 44 VSS (power), 59 VSS (power), 60 VDD(DCDC)(3V3) (power), 62 VDD(3V3) (power), 65 VSS (power), 77 VDD(3V3) (power), 79 VSS (power), 102 VDD(3V3) (power), 103 VSS (power), 114 VDD(3V3) (power), 117 VSS (power), 119 VSS (power), 121 VDD(DCDC)(3V3) (power), 138 VDD(3V3) (power), 139 VSS (power)
part E pins: 21 NC, 81 NC, 98 NC

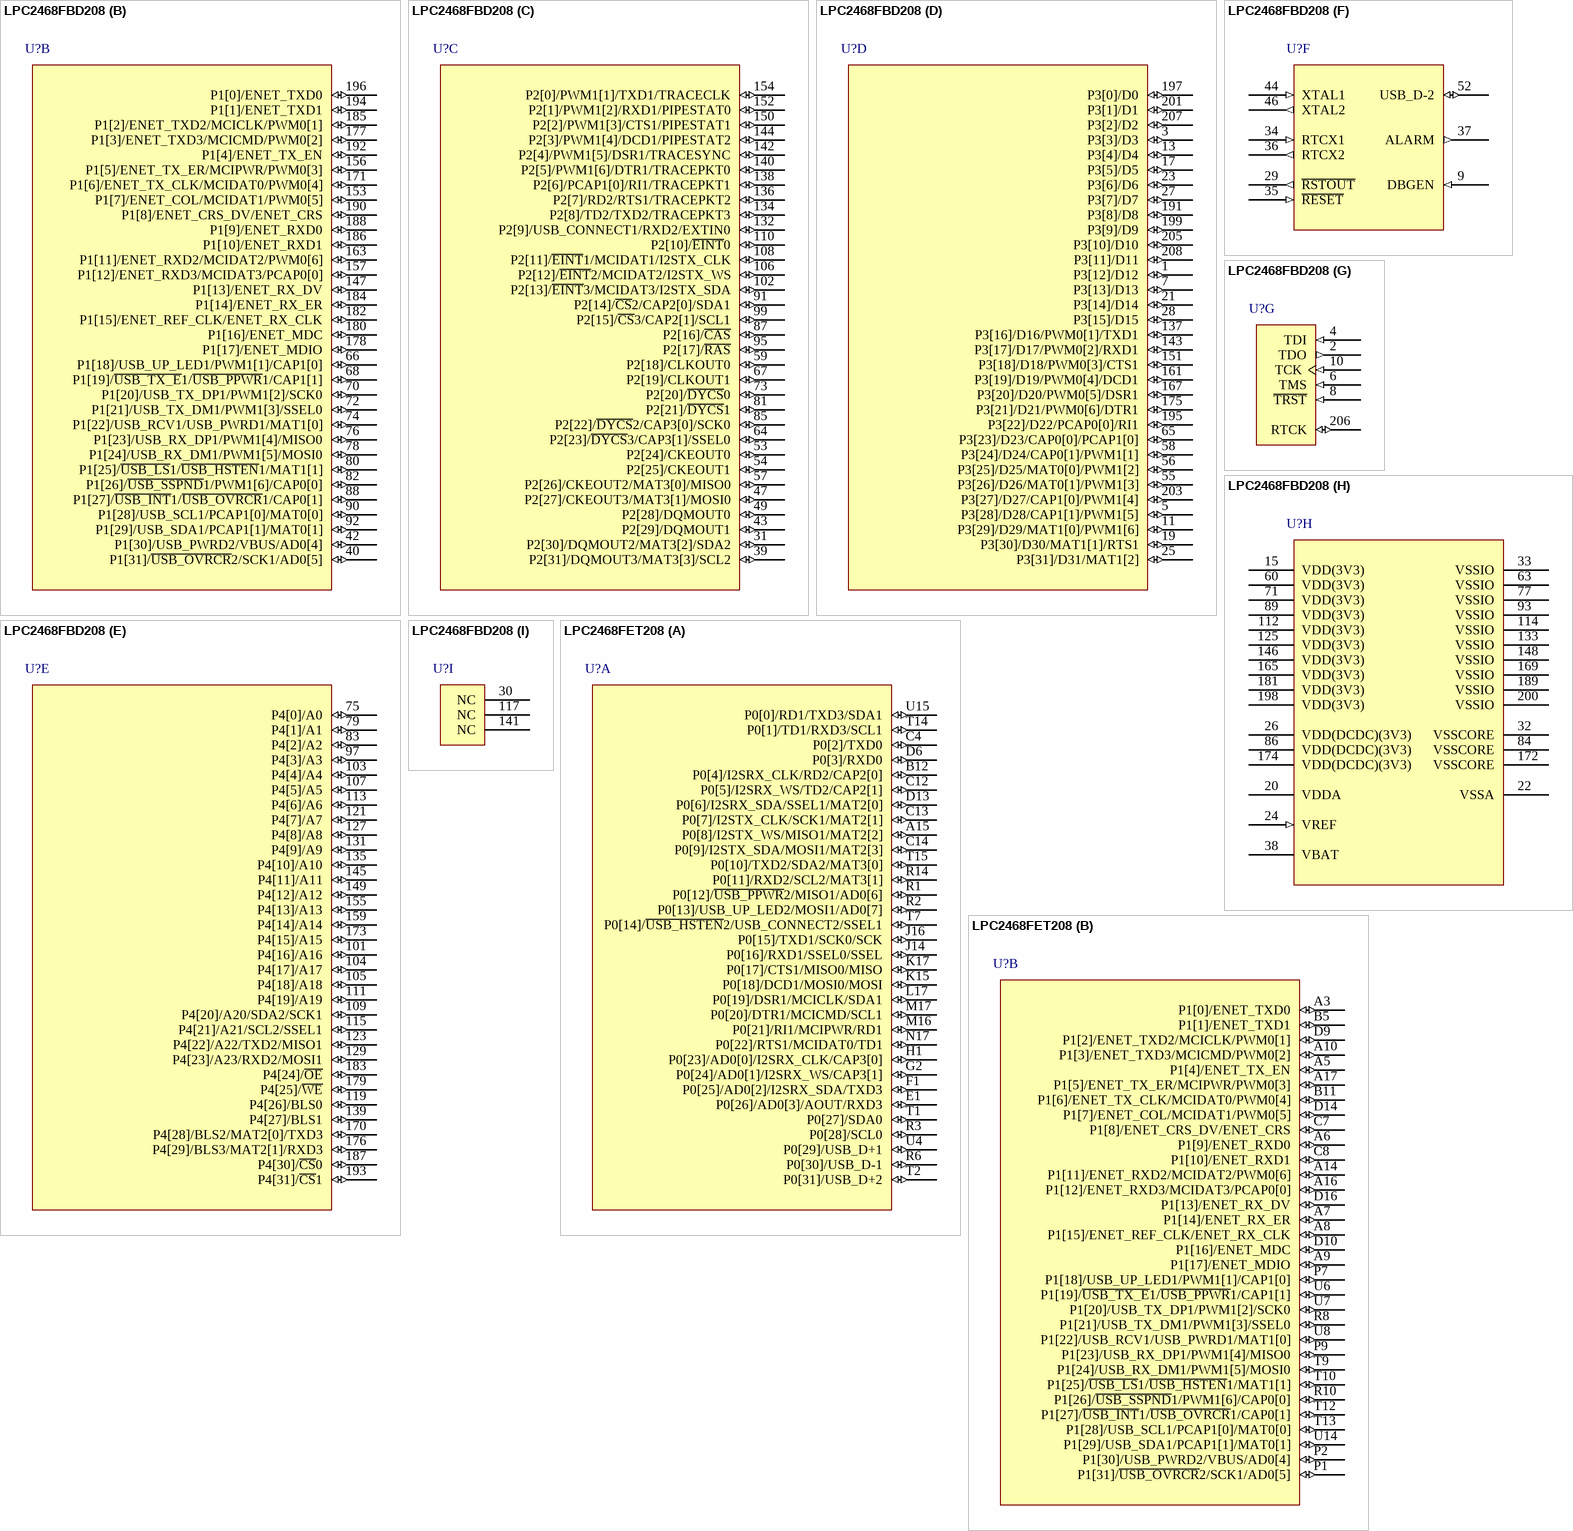
[diagram p24: symbols LPC2468FBD208 to LPC2468FET208]

## LPC2468FBD208
designator U?
ARM7 16/32-Bit Microcontroller, 512KB Flash, 98KB RAM, 208-Lead LQFP; Code_IEC: 136E30; Published: 17-Aug-2007; DatasheetVersion: rev.01, Jul-2007; PackageVersion: Feb-2003; PackageReference: SOT459-1; Publisher: Altium Limited; PackageDescription: 208-Pin Plastic Low Profile Quad Flat Pack, LQFP208; Code_JEDEC: MS-026; ComponentLink1Description: Manufacturer Link; ComponentLink1URL: http://www.nxp.com/; ComponentLink2Description: Datasheet; ComponentLink2URL: http://www.standardics.nxp.com/products/lpc2000/datasheet/lpc2468.pdf
footprint SOT459-1_N (Thin QFP, 208-Leads, Body 28x28mm, Pitch 0.5mm, IPC Medium Density)
footprint SOT459-1_L (Thin QFP, 208-Leads, Body 28x28mm, Pitch 0.5mm, IPC High Density)
footprint SOT459-1_M (Thin QFP, 208-Leads, Body 28x28mm, Pitch 0.5mm, IPC Low Density)
3D model LPC2468-QFP208 (208-Pin Plastic Low Profile Quad Flat Pack, LQFP208)
part A pins: 12 P0[26]/AD0[3]/AOUT/RXD3 (io), 14 P0[25]/AD0[2]/I2SRX_SDA/TXD3 (io), 16 P0[24]/AD0[1]/I2SRX_WS/CAP3[1] (io), 18 P0[23]/AD0[0]/I2SRX_CLK/CAP3[0] (io), 41 P0[12]/~{USB_PPWR}2/MISO1/AD0[6] (io), 45 P0[13]/USB_UP_LED2/MOSI1/AD0[7] (io), 48 P0[28]/SCL0 (io), 50 P0[27]/SDA0 (io), 51 P0[31]/USB_D+2 (io), 61 P0[29]/USB_D+1 (io), 62 P0[30]/USB_D-1 (io), 69 P0[14]/~{USB_HSTEN}2/USB_CONNECT2/SSEL1 (io), 94 P0[0]/RD1/TXD3/SDA1 (io), 96 P0[1]/TD1/RXD3/SCL1 (io), 98 P0[10]/TXD2/SDA2/MAT3[0] (io), 100 P0[11]/RXD2/SCL2/MAT3[1] (io), 116 P0[22]/RTS1/MCIDAT0/TD1 (io), 118 P0[21]/RI1/MCIPWR/RD1 (io), 120 P0[20]/DTR1/MCICMD/SCL1 (io), 122 P0[19]/DSR1/MCICLK/SDA1 (io), 124 P0[18]/DCD1/MOSI0/MOSI (io), 126 P0[17]/CTS1/MISO0/MISO (io), 128 P0[15]/TXD1/SCK0/SCK (io), 130 P0[16]/RXD1/SSEL0/SSEL (io), 158 P0[9]/I2STX_SDA/MOSI1/MAT2[3] (io), 160 P0[8]/I2STX_WS/MISO1/MAT2[2] (io), 162 P0[7]/I2STX_CLK/SCK1/MAT2[1] (io), 164 P0[6]/I2SRX_SDA/SSEL1/MAT2[0] (io), 166 P0[5]/I2SRX_WS/TD2/CAP2[1] (io), 168 P0[4]/I2SRX_CLK/RD2/CAP2[0] (io), 202 P0[2]/TXD0 (io), 204 P0[3]/RXD0 (io)
part B pins: 40 P1[31]/~{USB_OVRCR}2/SCK1/AD0[5] (io), 42 P1[30]/USB_PWRD2/VBUS/AD0[4] (io), 66 P1[18]/USB_UP_LED1/PWM1[1]/CAP1[0] (io), 68 P1[19]/~{USB_TX_E}1/~{USB_PPWR}1/CAP1[1] (io), 70 P1[20]/USB_TX_DP1/PWM1[2]/SCK0 (io), 72 P1[21]/USB_TX_DM1/PWM1[3]/SSEL0 (io), 74 P1[22]/USB_RCV1/USB_PWRD1/MAT1[0] (io), 76 P1[23]/USB_RX_DP1/PWM1[4]/MISO0 (io), 78 P1[24]/USB_RX_DM1/PWM1[5]/MOSI0 (io), 80 P1[25]/~{USB_LS}1/~{USB_HSTEN}1/MAT1[1] (io), 82 P1[26]/~{USB_SSPND}1/PWM1[6]/CAP0[0] (io), 88 P1[27]/~{USB_INT}1/~{USB_OVRCR}1/CAP0[1] (io), 90 P1[28]/USB_SCL1/PCAP1[0]/MAT0[0] (io), 92 P1[29]/USB_SDA1/PCAP1[1]/MAT0[1] (io), 147 P1[13]/ENET_RX_DV (io), 153 P1[7]/ENET_COL/MCIDAT1/PWM0[5] (io), 156 P1[5]/ENET_TX_ER/MCIPWR/PWM0[3] (io), 157 P1[12]/ENET_RXD3/MCIDAT3/PCAP0[0] (io), 163 P1[11]/ENET_RXD2/MCIDAT2/PWM0[6] (io), 171 P1[6]/ENET_TX_CLK/MCIDAT0/PWM0[4] (io), 177 P1[3]/ENET_TXD3/MCICMD/PWM0[2] (io), 178 P1[17]/ENET_MDIO (io), 180 P1[16]/ENET_MDC (io), 182 P1[15]/ENET_REF_CLK/ENET_RX_CLK (io), 184 P1[14]/ENET_RX_ER (io), 185 P1[2]/ENET_TXD2/MCICLK/PWM0[1] (io), 186 P1[10]/ENET_RXD1 (io), 188 P1[9]/ENET_RXD0 (io), 190 P1[8]/ENET_CRS_DV/ENET_CRS (io), 192 P1[4]/ENET_TX_EN (io), 194 P1[1]/ENET_TXD1 (io), 196 P1[0]/ENET_TXD0 (io)
part C pins: 31 P2[30]/DQMOUT2/MAT3[2]/SDA2 (io), 39 P2[31]/DQMOUT3/MAT3[3]/SCL2 (io), 43 P2[29]/DQMOUT1 (io), 47 P2[27]/CKEOUT3/MAT3[1]/MOSI0 (io), 49 P2[28]/DQMOUT0 (io), 53 P2[24]/CKEOUT0 (io), 54 P2[25]/CKEOUT1 (io), 57 P2[26]/CKEOUT2/MAT3[0]/MISO0 (io), 59 P2[18]/CLKOUT0 (io), 64 P2[23]/~{DYCS}3/CAP3[1]/SSEL0 (io), 67 P2[19]/CLKOUT1 (io), 73 P2[20]/~{DYCS}0 (io), 81 P2[21]/~{DYCS}1 (io), 85 P2[22]/~{DYCS}2/CAP3[0]/SCK0 (io), 87 P2[16]/~{CAS} (io), 91 P2[14]/~{CS}2/CAP2[0]/SDA1 (io), 95 P2[17]/~{RAS} (io), 99 P2[15]/~{CS}3/CAP2[1]/SCL1 (io), 102 P2[13]/~{EINT}3/MCIDAT3/I2STX_SDA (io), 106 P2[12]/~{EINT}2/MCIDAT2/I2STX_WS (io), 108 P2[11]/~{EINT}1/MCIDAT1/I2STX_CLK (io), 110 P2[10]/~{EINT}0 (io), 132 P2[9]/USB_CONNECT1/RXD2/EXTIN0 (io), 134 P2[8]/TD2/TXD2/TRACEPKT3 (io), 136 P2[7]/RD2/RTS1/TRACEPKT2 (io), 138 P2[6]/PCAP1[0]/RI1/TRACEPKT1 (io), 140 P2[5]/PWM1[6]/DTR1/TRACEPKT0 (io), 142 P2[4]/PWM1[5]/DSR1/TRACESYNC (io), 144 P2[3]/PWM1[4]/DCD1/PIPESTAT2 (io), 150 P2[2]/PWM1[3]/CTS1/PIPESTAT1 (io), 152 P2[1]/PWM1[2]/RXD1/PIPESTAT0 (io), 154 P2[0]/PWM1[1]/TXD1/TRACECLK (io)
part D pins: 1 P3[12]/D12 (io), 3 P3[3]/D3 (io), 5 P3[28]/D28/CAP1[1]/PWM1[5] (io), 7 P3[13]/D13 (io), 11 P3[29]/D29/MAT1[0]/PWM1[6] (io), 13 P3[4]/D4 (io), 17 P3[5]/D5 (io), 19 P3[30]/D30/MAT1[1]/RTS1 (io), 21 P3[14]/D14 (io), 23 P3[6]/D6 (io), 25 P3[31]/D31/MAT1[2] (io), 27 P3[7]/D7 (io), 28 P3[15]/D15 (io), 55 P3[26]/D26/MAT0[1]/PWM1[3] (io), 56 P3[25]/D25/MAT0[0]/PWM1[2] (io), 58 P3[24]/D24/CAP0[1]/PWM1[1] (io), 65 P3[23]/D23/CAP0[0]/PCAP1[0] (io), 137 P3[16]/D16/PWM0[1]/TXD1 (io), 143 P3[17]/D17/PWM0[2]/RXD1 (io), 151 P3[18]/D18/PWM0[3]/CTS1 (io), 161 P3[19]/D19/PWM0[4]/DCD1 (io), 167 P3[20]/D20/PWM0[5]/DSR1 (io), 175 P3[21]/D21/PWM0[6]/DTR1 (io), 191 P3[8]/D8 (io), 195 P3[22]/D22/PCAP0[0]/RI1 (io), 197 P3[0]/D0 (io), 199 P3[9]/D9 (io), 201 P3[1]/D1 (io), 203 P3[27]/D27/CAP1[0]/PWM1[4] (io), 205 P3[10]/D10 (io), 207 P3[2]/D2 (io), 208 P3[11]/D11 (io)
part E pins: 75 P4[0]/A0 (io), 79 P4[1]/A1 (io), 83 P4[2]/A2 (io), 97 P4[3]/A3 (io), 101 P4[16]/A16 (io), 103 P4[4]/A4 (io), 104 P4[17]/A17 (io), 105 P4[18]/A18 (io), 107 P4[5]/A5 (io), 109 P4[20]/A20/SDA2/SCK1 (io), 111 P4[19]/A19 (io), 113 P4[6]/A6 (io), 115 P4[21]/A21/SCL2/SSEL1 (io), 119 P4[26]/BLS0 (io), 121 P4[7]/A7 (io), 123 P4[22]/A22/TXD2/MISO1 (io), 127 P4[8]/A8 (io), 129 P4[23]/A23/RXD2/MOSI1 (io), 131 P4[9]/A9 (io), 135 P4[10]/A10 (io), 139 P4[27]/BLS1 (io), 145 P4[11]/A11 (io), 149 P4[12]/A12 (io), 155 P4[13]/A13 (io), 159 P4[14]/A14 (io), 170 P4[28]/BLS2/MAT2[0]/TXD3 (io), 173 P4[15]/A15 (io), 176 P4[29]/BLS3/MAT2[1]/RXD3 (io), 179 P4[25]/~{WE} (io), 183 P4[24]/~{OE} (io), 187 P4[30]/~{CS}0 (io), 193 P4[31]/~{CS}1 (io)
part F pins: 9 DBGEN (in), 29 ~{RSTOUT} (out), 34 RTCX1 (in), 35 ~{RESET} (in), 36 RTCX2 (out), 37 ALARM (out), 44 XTAL1 (in), 46 XTAL2 (out), 52 USB_D-2 (io)
part G pins: 2 TDO (out), 4 TDI (in), 6 TMS (in), 8 ~{TRST} (in), 10 TCK (in), 206 RTCK (io)
part H pins: 15 VDD(3V3) (power), 20 VDDA (power), 22 VSSA (power), 24 VREF (in), 26 VDD(DCDC)(3V3) (power), 32 VSSCORE (power), 33 VSSIO (power), 38 VBAT (power), 60 VDD(3V3) (power), 63 VSSIO (power), 71 VDD(3V3) (power), 77 VSSIO (power), 84 VSSCORE (power), 86 VDD(DCDC)(3V3) (power), 89 VDD(3V3) (power), 93 VSSIO (power), 112 VDD(3V3) (power), 114 VSSIO (power), 125 VDD(3V3) (power), 133 VSSIO (power), 146 VDD(3V3) (power), 148 VSSIO (power), 165 VDD(3V3) (power), 169 VSSIO (power), 172 VSSCORE (power), 174 VDD(DCDC)(3V3) (power), 181 VDD(3V3) (power), 189 VSSIO (power), 198 VDD(3V3) (power), 200 VSSIO (power)
part I pins: 30 NC, 117 NC, 141 NC

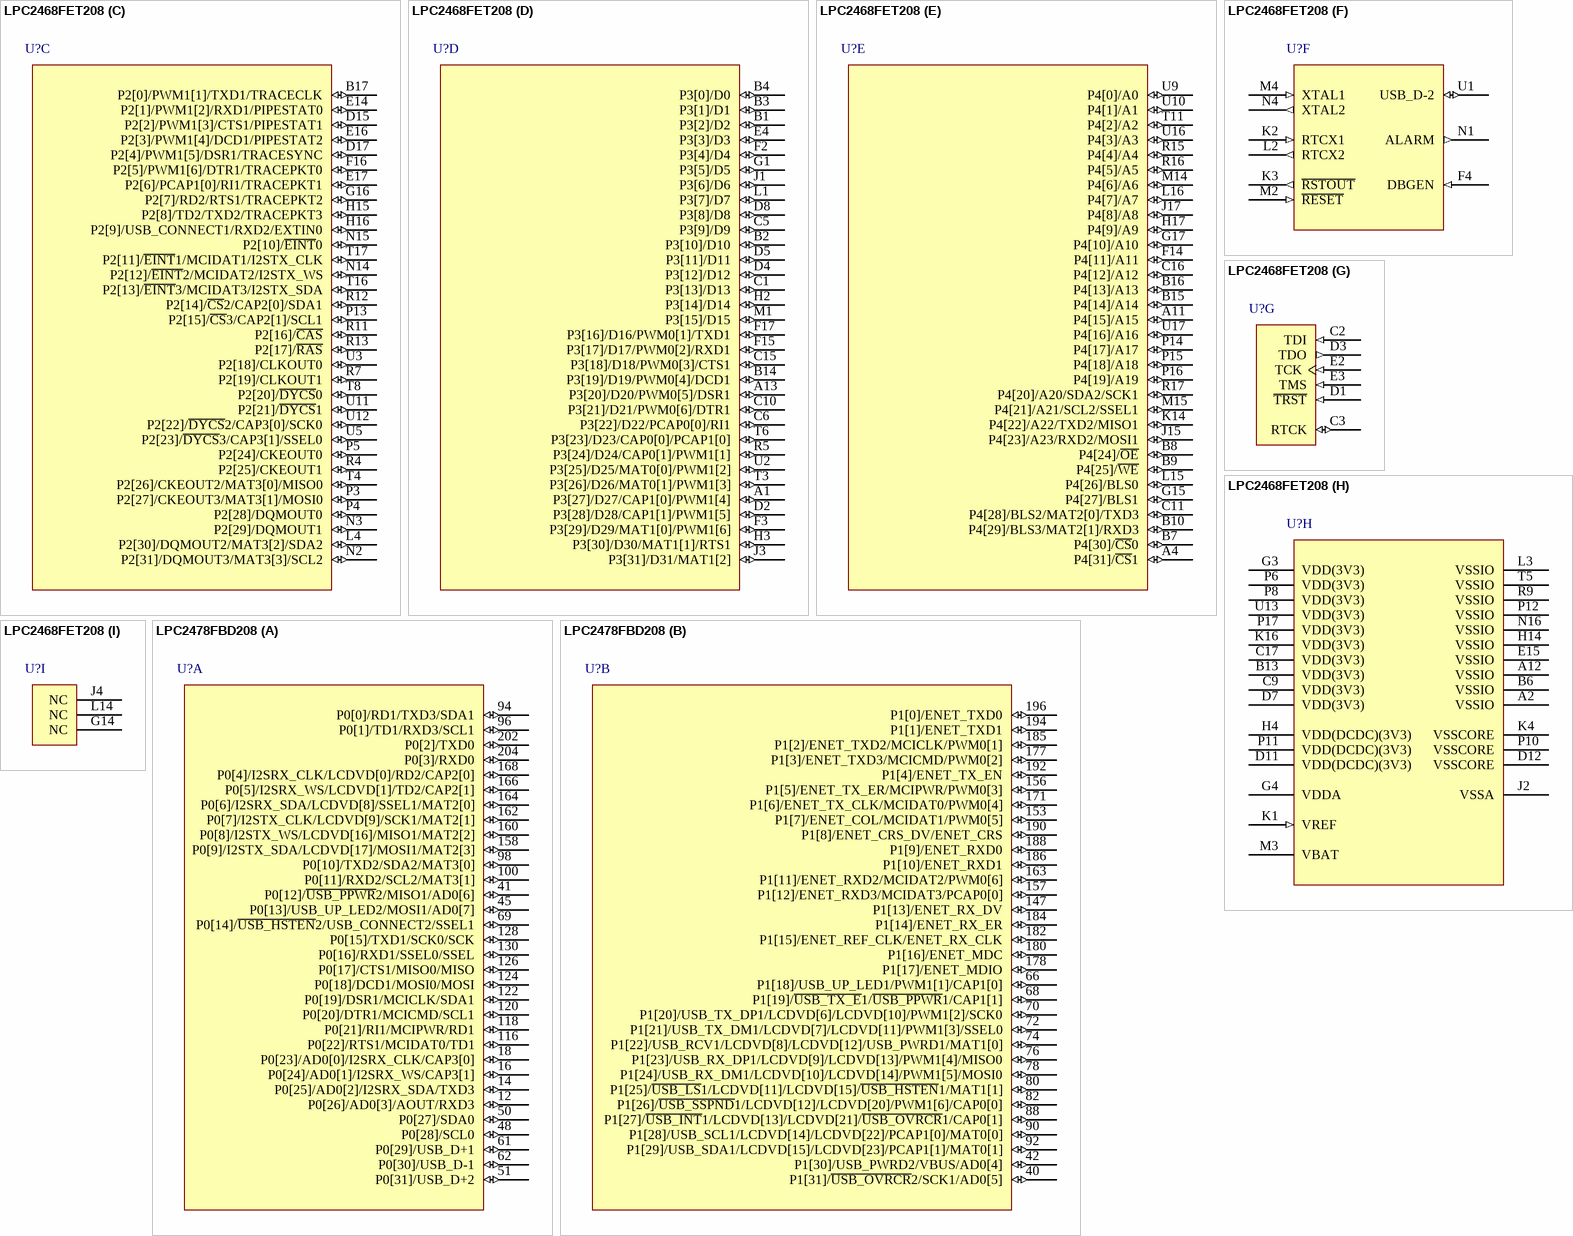
[diagram p25: symbols LPC2468FET208 to LPC2478FBD208]

## LPC2468FET208
designator U?
ARM7 16/32-Bit Microcontroller, 512KB Flash, 98KB RAM, 208-Lead TFBGA; Published: 17-Aug-2007; DatasheetVersion: rev.01, Jul-2007; PackageVersion: Jun-2006; PackageReference: SOT950-1; Publisher: Altium Limited; PackageDescription: 208-Ball Plastic Thin Fine Pitch Ball Grid Array, TFBGA208; ComponentLink1Description: Manufacturer Link; ComponentLink1URL: http://www.nxp.com/; ComponentLink2Description: Datasheet; ComponentLink2URL: http://www.standardics.nxp.com/products/lpc2000/datasheet/lpc2468.pdf
footprint SOT950-1 (BGA, 208-Leads, Body 15x15mm, Pitch 0.8mm)
3D model LPC2468-BGA208 (208-Ball Plastic Thin Fine Pitch Ball Grid Array, TFBGA208)
part A pins: A15 P0[8]/I2STX_WS/MISO1/MAT2[2] (io), B12 P0[4]/I2SRX_CLK/RD2/CAP2[0] (io), C4 P0[2]/TXD0 (io), C12 P0[5]/I2SRX_WS/TD2/CAP2[1] (io), C13 P0[7]/I2STX_CLK/SCK1/MAT2[1] (io), C14 P0[9]/I2STX_SDA/MOSI1/MAT2[3] (io), D6 P0[3]/RXD0 (io), D13 P0[6]/I2SRX_SDA/SSEL1/MAT2[0] (io), E1 P0[26]/AD0[3]/AOUT/RXD3 (io), F1 P0[25]/AD0[2]/I2SRX_SDA/TXD3 (io), G2 P0[24]/AD0[1]/I2SRX_WS/CAP3[1] (io), H1 P0[23]/AD0[0]/I2SRX_CLK/CAP3[0] (io), J14 P0[16]/RXD1/SSEL0/SSEL (io), J16 P0[15]/TXD1/SCK0/SCK (io), K15 P0[18]/DCD1/MOSI0/MOSI (io), K17 P0[17]/CTS1/MISO0/MISO (io), L17 P0[19]/DSR1/MCICLK/SDA1 (io), M16 P0[21]/RI1/MCIPWR/RD1 (io), M17 P0[20]/DTR1/MCICMD/SCL1 (io), N17 P0[22]/RTS1/MCIDAT0/TD1 (io), R1 P0[12]/~{USB_PPWR}2/MISO1/AD0[6] (io), R2 P0[13]/USB_UP_LED2/MOSI1/AD0[7] (io), R3 P0[28]/SCL0 (io), R6 P0[30]/USB_D-1 (io), R14 P0[11]/RXD2/SCL2/MAT3[1] (io), T1 P0[27]/SDA0 (io), T2 P0[31]/USB_D+2 (io), T7 P0[14]/~{USB_HSTEN}2/USB_CONNECT2/SSEL1 (io), T14 P0[1]/TD1/RXD3/SCL1 (io), T15 P0[10]/TXD2/SDA2/MAT3[0] (io), U4 P0[29]/USB_D+1 (io), U15 P0[0]/RD1/TXD3/SDA1 (io)
part B pins: A3 P1[0]/ENET_TXD0 (io), A5 P1[4]/ENET_TX_EN (io), A6 P1[9]/ENET_RXD0 (io), A7 P1[14]/ENET_RX_ER (io), A8 P1[15]/ENET_REF_CLK/ENET_RX_CLK (io), A9 P1[17]/ENET_MDIO (io), A10 P1[3]/ENET_TXD3/MCICMD/PWM0[2] (io), A14 P1[11]/ENET_RXD2/MCIDAT2/PWM0[6] (io), A16 P1[12]/ENET_RXD3/MCIDAT3/PCAP0[0] (io), A17 P1[5]/ENET_TX_ER/MCIPWR/PWM0[3] (io), B5 P1[1]/ENET_TXD1 (io), B11 P1[6]/ENET_TX_CLK/MCIDAT0/PWM0[4] (io), C7 P1[8]/ENET_CRS_DV/ENET_CRS (io), C8 P1[10]/ENET_RXD1 (io), D9 P1[2]/ENET_TXD2/MCICLK/PWM0[1] (io), D10 P1[16]/ENET_MDC (io), D14 P1[7]/ENET_COL/MCIDAT1/PWM0[5] (io), D16 P1[13]/ENET_RX_DV (io), P1 P1[31]/~{USB_OVRCR}2/SCK1/AD0[5] (io), P2 P1[30]/USB_PWRD2/VBUS/AD0[4] (io), P7 P1[18]/USB_UP_LED1/PWM1[1]/CAP1[0] (io), P9 P1[23]/USB_RX_DP1/PWM1[4]/MISO0 (io), R8 P1[21]/USB_TX_DM1/PWM1[3]/SSEL0 (io), R10 P1[26]/~{USB_SSPND}1/PWM1[6]/CAP0[0] (io), T9 P1[24]/USB_RX_DM1/PWM1[5]/MOSI0 (io), T10 P1[25]/~{USB_LS}1/~{USB_HSTEN}1/MAT1[1] (io), T12 P1[27]/~{USB_INT}1/~{USB_OVRCR}1/CAP0[1] (io), T13 P1[28]/USB_SCL1/PCAP1[0]/MAT0[0] (io), U6 P1[19]/~{USB_TX_E}1/~{USB_PPWR}1/CAP1[1] (io), U7 P1[20]/USB_TX_DP1/PWM1[2]/SCK0 (io), U8 P1[22]/USB_RCV1/USB_PWRD1/MAT1[0] (io), U14 P1[29]/USB_SDA1/PCAP1[1]/MAT0[1] (io)
part C pins: B17 P2[0]/PWM1[1]/TXD1/TRACECLK (io), D15 P2[2]/PWM1[3]/CTS1/PIPESTAT1 (io), D17 P2[4]/PWM1[5]/DSR1/TRACESYNC (io), E14 P2[1]/PWM1[2]/RXD1/PIPESTAT0 (io), E16 P2[3]/PWM1[4]/DCD1/PIPESTAT2 (io), E17 P2[6]/PCAP1[0]/RI1/TRACEPKT1 (io), F16 P2[5]/PWM1[6]/DTR1/TRACEPKT0 (io), G16 P2[7]/RD2/RTS1/TRACEPKT2 (io), H15 P2[8]/TD2/TXD2/TRACEPKT3 (io), H16 P2[9]/USB_CONNECT1/RXD2/EXTIN0 (io), L4 P2[30]/DQMOUT2/MAT3[2]/SDA2 (io), N2 P2[31]/DQMOUT3/MAT3[3]/SCL2 (io), N3 P2[29]/DQMOUT1 (io), N14 P2[12]/~{EINT}2/MCIDAT2/I2STX_WS (io), N15 P2[10]/~{EINT}0 (io), P3 P2[27]/CKEOUT3/MAT3[1]/MOSI0 (io), P4 P2[28]/DQMOUT0 (io), P5 P2[24]/CKEOUT0 (io), P13 P2[15]/~{CS}3/CAP2[1]/SCL1 (io), R4 P2[25]/CKEOUT1 (io), R7 P2[19]/CLKOUT1 (io), R11 P2[16]/~{CAS} (io), R12 P2[14]/~{CS}2/CAP2[0]/SDA1 (io), R13 P2[17]/~{RAS} (io), T4 P2[26]/CKEOUT2/MAT3[0]/MISO0 (io), T8 P2[20]/~{DYCS}0 (io), T16 P2[13]/~{EINT}3/MCIDAT3/I2STX_SDA (io), T17 P2[11]/~{EINT}1/MCIDAT1/I2STX_CLK (io), U3 P2[18]/CLKOUT0 (io), U5 P2[23]/~{DYCS}3/CAP3[1]/SSEL0 (io), U11 P2[21]/~{DYCS}1 (io), U12 P2[22]/~{DYCS}2/CAP3[0]/SCK0 (io)
part D pins: A1 P3[27]/D27/CAP1[0]/PWM1[4] (io), A13 P3[20]/D20/PWM0[5]/DSR1 (io), B1 P3[2]/D2 (io), B2 P3[10]/D10 (io), B3 P3[1]/D1 (io), B4 P3[0]/D0 (io), B14 P3[19]/D19/PWM0[4]/DCD1 (io), C1 P3[13]/D13 (io), C5 P3[9]/D9 (io), C6 P3[22]/D22/PCAP0[0]/RI1 (io), C10 P3[21]/D21/PWM0[6]/DTR1 (io), C15 P3[18]/D18/PWM0[3]/CTS1 (io), D2 P3[28]/D28/CAP1[1]/PWM1[5] (io), D4 P3[12]/D12 (io), D5 P3[11]/D11 (io), D8 P3[8]/D8 (io), E4 P3[3]/D3 (io), F2 P3[4]/D4 (io), F3 P3[29]/D29/MAT1[0]/PWM1[6] (io), F15 P3[17]/D17/PWM0[2]/RXD1 (io), F17 P3[16]/D16/PWM0[1]/TXD1 (io), G1 P3[5]/D5 (io), H2 P3[14]/D14 (io), H3 P3[30]/D30/MAT1[1]/RTS1 (io), J1 P3[6]/D6 (io), J3 P3[31]/D31/MAT1[2] (io), L1 P3[7]/D7 (io), M1 P3[15]/D15 (io), R5 P3[24]/D24/CAP0[1]/PWM1[1] (io), T3 P3[26]/D26/MAT0[1]/PWM1[3] (io), T6 P3[23]/D23/CAP0[0]/PCAP1[0] (io), U2 P3[25]/D25/MAT0[0]/PWM1[2] (io)
part E pins: A4 P4[31]/~{CS}1 (io), A11 P4[15]/A15 (io), B7 P4[30]/~{CS}0 (io), B8 P4[24]/~{OE} (io), B9 P4[25]/~{WE} (io), B10 P4[29]/BLS3/MAT2[1]/RXD3 (io), B15 P4[14]/A14 (io), B16 P4[13]/A13 (io), C11 P4[28]/BLS2/MAT2[0]/TXD3 (io), C16 P4[12]/A12 (io), F14 P4[11]/A11 (io), G15 P4[27]/BLS1 (io), G17 P4[10]/A10 (io), H17 P4[9]/A9 (io), J15 P4[23]/A23/RXD2/MOSI1 (io), J17 P4[8]/A8 (io), K14 P4[22]/A22/TXD2/MISO1 (io), L15 P4[26]/BLS0 (io), L16 P4[7]/A7 (io), M14 P4[6]/A6 (io), M15 P4[21]/A21/SCL2/SSEL1 (io), P14 P4[17]/A17 (io), P15 P4[18]/A18 (io), P16 P4[19]/A19 (io), R15 P4[4]/A4 (io), R16 P4[5]/A5 (io), R17 P4[20]/A20/SDA2/SCK1 (io), T11 P4[2]/A2 (io), U9 P4[0]/A0 (io), U10 P4[1]/A1 (io), U16 P4[3]/A3 (io), U17 P4[16]/A16 (io)
part F pins: F4 DBGEN (in), K2 RTCX1 (in), K3 ~{RSTOUT} (out), L2 RTCX2 (out), M2 ~{RESET} (in), M4 XTAL1 (in), N1 ALARM (out), N4 XTAL2 (out), U1 USB_D-2 (io)
part G pins: C2 TDI (in), C3 RTCK (io), D1 ~{TRST} (in), D3 TDO (out), E2 TCK (in), E3 TMS (in)
part H pins: A2 VSSIO (power), A12 VSSIO (power), B6 VSSIO (power), B13 VDD(3V3) (power), C9 VDD(3V3) (power), C17 VDD(3V3) (power), D7 VDD(3V3) (power), D11 VDD(DCDC)(3V3) (power), D12 VSSCORE (power), E15 VSSIO (power), G3 VDD(3V3) (power), G4 VDDA (power), H4 VDD(DCDC)(3V3) (power), H14 VSSIO (power), J2 VSSA (power), K1 VREF (in), K4 VSSCORE (power), K16 VDD(3V3) (power), L3 VSSIO (power), M3 VBAT (power), N16 VSSIO (power), P6 VDD(3V3) (power), P8 VDD(3V3) (power), P10 VSSCORE (power), P11 VDD(DCDC)(3V3) (power), P12 VSSIO (power), P17 VDD(3V3) (power), R9 VSSIO (power), T5 VSSIO (power), U13 VDD(3V3) (power)
part I pins: G14 NC, J4 NC, L14 NC

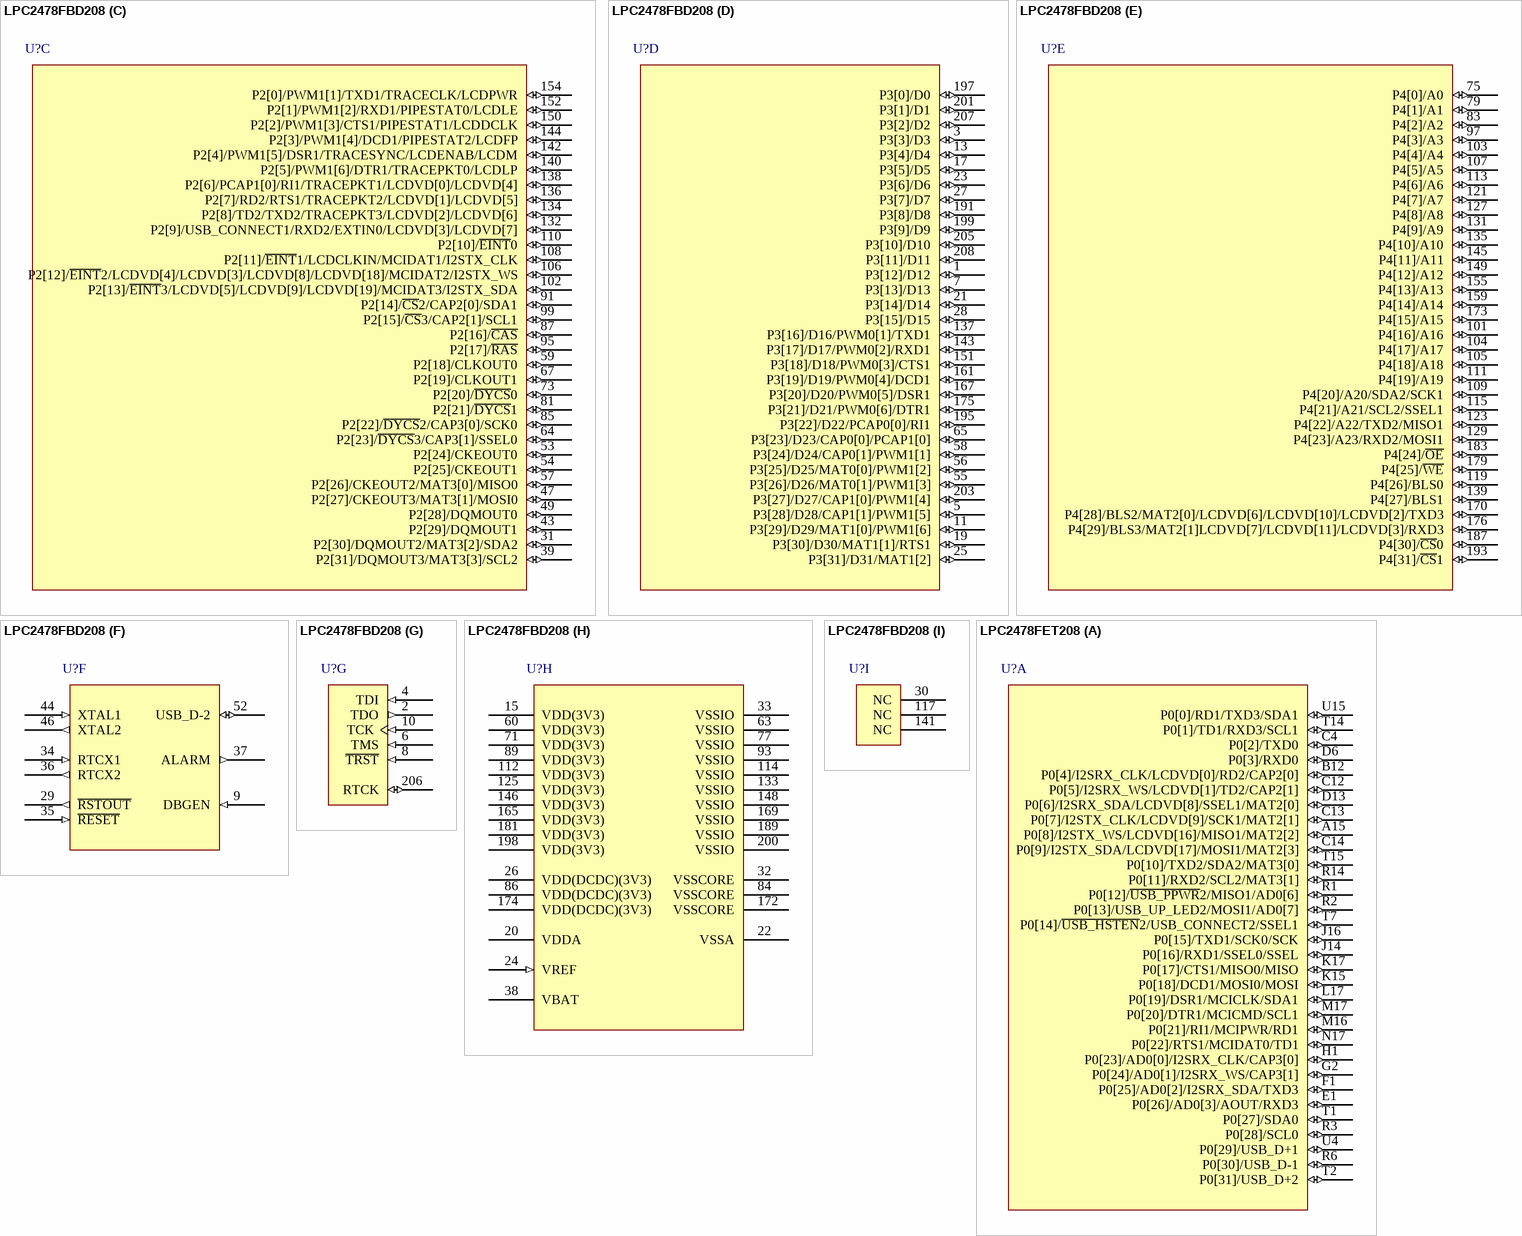
[diagram p26: symbols LPC2478FBD208 to LPC2478FET208]

## LPC2478FBD208
designator U?
ARM7 16/32-Bit Microcontroller, 512KB Flash, 98KB RAM, LCD controller, 208-Lead LQFP; Code_IEC: 136E30; Published: 17-Aug-2007; DatasheetVersion: rev.01, Jul-2007; PackageVersion: Feb-2003; PackageReference: SOT459-1; Publisher: Altium Limited; PackageDescription: 208-Pin Plastic Low Profile Quad Flat Pack, LQFP208; Code_JEDEC: MS-026; ComponentLink1Description: Manufacturer Link; ComponentLink1URL: http://www.nxp.com/; ComponentLink2Description: Datasheet; ComponentLink2URL: http://www.standardics.nxp.com/products/lpc2000/datasheet/lpc2478.pdf
footprint SOT459-1_N (Thin QFP, 208-Leads, Body 28x28mm, Pitch 0.5mm, IPC Medium Density)
footprint SOT459-1_L (Thin QFP, 208-Leads, Body 28x28mm, Pitch 0.5mm, IPC High Density)
footprint SOT459-1_M (Thin QFP, 208-Leads, Body 28x28mm, Pitch 0.5mm, IPC Low Density)
3D model LPC2478-QFP208 (208-Pin Plastic Low Profile Quad Flat Pack, LQFP208)
part A pins: 12 P0[26]/AD0[3]/AOUT/RXD3 (io), 14 P0[25]/AD0[2]/I2SRX_SDA/TXD3 (io), 16 P0[24]/AD0[1]/I2SRX_WS/CAP3[1] (io), 18 P0[23]/AD0[0]/I2SRX_CLK/CAP3[0] (io), 41 P0[12]/~{USB_PPWR}2/MISO1/AD0[6] (io), 45 P0[13]/USB_UP_LED2/MOSI1/AD0[7] (io), 48 P0[28]/SCL0 (io), 50 P0[27]/SDA0 (io), 51 P0[31]/USB_D+2 (io), 61 P0[29]/USB_D+1 (io), 62 P0[30]/USB_D-1 (io), 69 P0[14]/~{USB_HSTEN}2/USB_CONNECT2/SSEL1 (io), 94 P0[0]/RD1/TXD3/SDA1 (io), 96 P0[1]/TD1/RXD3/SCL1 (io), 98 P0[10]/TXD2/SDA2/MAT3[0] (io), 100 P0[11]/RXD2/SCL2/MAT3[1] (io), 116 P0[22]/RTS1/MCIDAT0/TD1 (io), 118 P0[21]/RI1/MCIPWR/RD1 (io), 120 P0[20]/DTR1/MCICMD/SCL1 (io), 122 P0[19]/DSR1/MCICLK/SDA1 (io), 124 P0[18]/DCD1/MOSI0/MOSI (io), 126 P0[17]/CTS1/MISO0/MISO (io), 128 P0[15]/TXD1/SCK0/SCK (io), 130 P0[16]/RXD1/SSEL0/SSEL (io), 158 P0[9]/I2STX_SDA/LCDVD[17]/MOSI1/MAT2[3] (io), 160 P0[8]/I2STX_WS/LCDVD[16]/MISO1/MAT2[2] (io), 162 P0[7]/I2STX_CLK/LCDVD[9]/SCK1/MAT2[1] (io), 164 P0[6]/I2SRX_SDA/LCDVD[8]/SSEL1/MAT2[0] (io), 166 P0[5]/I2SRX_WS/LCDVD[1]/TD2/CAP2[1] (io), 168 P0[4]/I2SRX_CLK/LCDVD[0]/RD2/CAP2[0] (io), 202 P0[2]/TXD0 (io), 204 P0[3]/RXD0 (io)
part B pins: 40 P1[31]/~{USB_OVRCR}2/SCK1/AD0[5] (io), 42 P1[30]/USB_PWRD2/VBUS/AD0[4] (io), 66 P1[18]/USB_UP_LED1/PWM1[1]/CAP1[0] (io), 68 P1[19]/~{USB_TX_E}1/~{USB_PPWR}1/CAP1[1] (io), 70 P1[20]/USB_TX_DP1/LCDVD[6]/LCDVD[10]/PWM1[2]/SCK0 (io), 72 P1[21]/USB_TX_DM1/LCDVD[7]/LCDVD[11]/PWM1[3]/SSEL0 (io), 74 P1[22]/USB_RCV1/LCDVD[8]/LCDVD[12]/USB_PWRD1/MAT1[0] (io), 76 P1[23]/USB_RX_DP1/LCDVD[9]/LCDVD[13]/PWM1[4]/MISO0 (io), 78 P1[24]/USB_RX_DM1/LCDVD[10]/LCDVD[14]/PWM1[5]/MOSI0 (io), 80 P1[25]/~{USB_LS}1/LCDVD[11]/LCDVD[15]/~{USB_HSTEN}1/MAT1[1] (io), 82 P1[26]/~{USB_SSPND}1/LCDVD[12]/LCDVD[20]/PWM1[6]/CAP0[0] (io), 88 P1[27]/~{USB_INT}1/LCDVD[13]/LCDVD[21]/~{USB_OVRCR}1/CAP0[1] (io), 90 P1[28]/USB_SCL1/LCDVD[14]/LCDVD[22]/PCAP1[0]/MAT0[0] (io), 92 P1[29]/USB_SDA1/LCDVD[15]/LCDVD[23]/PCAP1[1]/MAT0[1] (io), 147 P1[13]/ENET_RX_DV (io), 153 P1[7]/ENET_COL/MCIDAT1/PWM0[5] (io), 156 P1[5]/ENET_TX_ER/MCIPWR/PWM0[3] (io), 157 P1[12]/ENET_RXD3/MCIDAT3/PCAP0[0] (io), 163 P1[11]/ENET_RXD2/MCIDAT2/PWM0[6] (io), 171 P1[6]/ENET_TX_CLK/MCIDAT0/PWM0[4] (io), 177 P1[3]/ENET_TXD3/MCICMD/PWM0[2] (io), 178 P1[17]/ENET_MDIO (io), 180 P1[16]/ENET_MDC (io), 182 P1[15]/ENET_REF_CLK/ENET_RX_CLK (io), 184 P1[14]/ENET_RX_ER (io), 185 P1[2]/ENET_TXD2/MCICLK/PWM0[1] (io), 186 P1[10]/ENET_RXD1 (io), 188 P1[9]/ENET_RXD0 (io), 190 P1[8]/ENET_CRS_DV/ENET_CRS (io), 192 P1[4]/ENET_TX_EN (io), 194 P1[1]/ENET_TXD1 (io), 196 P1[0]/ENET_TXD0 (io)
part C pins: 31 P2[30]/DQMOUT2/MAT3[2]/SDA2 (io), 39 P2[31]/DQMOUT3/MAT3[3]/SCL2 (io), 43 P2[29]/DQMOUT1 (io), 47 P2[27]/CKEOUT3/MAT3[1]/MOSI0 (io), 49 P2[28]/DQMOUT0 (io), 53 P2[24]/CKEOUT0 (io), 54 P2[25]/CKEOUT1 (io), 57 P2[26]/CKEOUT2/MAT3[0]/MISO0 (io), 59 P2[18]/CLKOUT0 (io), 64 P2[23]/~{DYCS}3/CAP3[1]/SSEL0 (io), 67 P2[19]/CLKOUT1 (io), 73 P2[20]/~{DYCS}0 (io), 81 P2[21]/~{DYCS}1 (io), 85 P2[22]/~{DYCS}2/CAP3[0]/SCK0 (io), 87 P2[16]/~{CAS} (io), 91 P2[14]/~{CS}2/CAP2[0]/SDA1 (io), 95 P2[17]/~{RAS} (io), 99 P2[15]/~{CS}3/CAP2[1]/SCL1 (io), 102 P2[13]/~{EINT}3/LCDVD[5]/LCDVD[9]/LCDVD[19]/MCIDAT3/I2STX_SDA (io), 106 P2[12]/~{EINT}2/LCDVD[4]/LCDVD[3]/LCDVD[8]/LCDVD[18]/MCIDAT2/I2STX_WS (io), 108 P2[11]/~{EINT}1/LCDCLKIN/MCIDAT1/I2STX_CLK (io), 110 P2[10]/~{EINT}0 (io), 132 P2[9]/USB_CONNECT1/RXD2/EXTIN0/LCDVD[3]/LCDVD[7] (io), 134 P2[8]/TD2/TXD2/TRACEPKT3/LCDVD[2]/LCDVD[6] (io), 136 P2[7]/RD2/RTS1/TRACEPKT2/LCDVD[1]/LCDVD[5] (io), 138 P2[6]/PCAP1[0]/RI1/TRACEPKT1/LCDVD[0]/LCDVD[4] (io), 140 P2[5]/PWM1[6]/DTR1/TRACEPKT0/LCDLP (io), 142 P2[4]/PWM1[5]/DSR1/TRACESYNC/LCDENAB/LCDM (io), 144 P2[3]/PWM1[4]/DCD1/PIPESTAT2/LCDFP (io), 150 P2[2]/PWM1[3]/CTS1/PIPESTAT1/LCDDCLK (io), 152 P2[1]/PWM1[2]/RXD1/PIPESTAT0/LCDLE (io), 154 P2[0]/PWM1[1]/TXD1/TRACECLK/LCDPWR (io)
part D pins: 1 P3[12]/D12 (io), 3 P3[3]/D3 (io), 5 P3[28]/D28/CAP1[1]/PWM1[5] (io), 7 P3[13]/D13 (io), 11 P3[29]/D29/MAT1[0]/PWM1[6] (io), 13 P3[4]/D4 (io), 17 P3[5]/D5 (io), 19 P3[30]/D30/MAT1[1]/RTS1 (io), 21 P3[14]/D14 (io), 23 P3[6]/D6 (io), 25 P3[31]/D31/MAT1[2] (io), 27 P3[7]/D7 (io), 28 P3[15]/D15 (io), 55 P3[26]/D26/MAT0[1]/PWM1[3] (io), 56 P3[25]/D25/MAT0[0]/PWM1[2] (io), 58 P3[24]/D24/CAP0[1]/PWM1[1] (io), 65 P3[23]/D23/CAP0[0]/PCAP1[0] (io), 137 P3[16]/D16/PWM0[1]/TXD1 (io), 143 P3[17]/D17/PWM0[2]/RXD1 (io), 151 P3[18]/D18/PWM0[3]/CTS1 (io), 161 P3[19]/D19/PWM0[4]/DCD1 (io), 167 P3[20]/D20/PWM0[5]/DSR1 (io), 175 P3[21]/D21/PWM0[6]/DTR1 (io), 191 P3[8]/D8 (io), 195 P3[22]/D22/PCAP0[0]/RI1 (io), 197 P3[0]/D0 (io), 199 P3[9]/D9 (io), 201 P3[1]/D1 (io), 203 P3[27]/D27/CAP1[0]/PWM1[4] (io), 205 P3[10]/D10 (io), 207 P3[2]/D2 (io), 208 P3[11]/D11 (io)
part E pins: 75 P4[0]/A0 (io), 79 P4[1]/A1 (io), 83 P4[2]/A2 (io), 97 P4[3]/A3 (io), 101 P4[16]/A16 (io), 103 P4[4]/A4 (io), 104 P4[17]/A17 (io), 105 P4[18]/A18 (io), 107 P4[5]/A5 (io), 109 P4[20]/A20/SDA2/SCK1 (io), 111 P4[19]/A19 (io), 113 P4[6]/A6 (io), 115 P4[21]/A21/SCL2/SSEL1 (io), 119 P4[26]/BLS0 (io), 121 P4[7]/A7 (io), 123 P4[22]/A22/TXD2/MISO1 (io), 127 P4[8]/A8 (io), 129 P4[23]/A23/RXD2/MOSI1 (io), 131 P4[9]/A9 (io), 135 P4[10]/A10 (io), 139 P4[27]/BLS1 (io), 145 P4[11]/A11 (io), 149 P4[12]/A12 (io), 155 P4[13]/A13 (io), 159 P4[14]/A14 (io), 170 P4[28]/BLS2/MAT2[0]/LCDVD[6]/LCDVD[10]/LCDVD[2]/TXD3 (io), 173 P4[15]/A15 (io), 176 P4[29]/BLS3/MAT2[1]LCDVD[7]/LCDVD[11]/LCDVD[3]/RXD3 (io), 179 P4[25]/~{WE} (io), 183 P4[24]/~{OE} (io), 187 P4[30]/~{CS}0 (io), 193 P4[31]/~{CS}1 (io)
part F pins: 9 DBGEN (in), 29 ~{RSTOUT} (out), 34 RTCX1 (in), 35 ~{RESET} (in), 36 RTCX2 (out), 37 ALARM (out), 44 XTAL1 (in), 46 XTAL2 (out), 52 USB_D-2 (io)
part G pins: 2 TDO (out), 4 TDI (in), 6 TMS (in), 8 ~{TRST} (in), 10 TCK (in), 206 RTCK (io)
part H pins: 15 VDD(3V3) (power), 20 VDDA (power), 22 VSSA (power), 24 VREF (in), 26 VDD(DCDC)(3V3) (power), 32 VSSCORE (power), 33 VSSIO (power), 38 VBAT (power), 60 VDD(3V3) (power), 63 VSSIO (power), 71 VDD(3V3) (power), 77 VSSIO (power), 84 VSSCORE (power), 86 VDD(DCDC)(3V3) (power), 89 VDD(3V3) (power), 93 VSSIO (power), 112 VDD(3V3) (power), 114 VSSIO (power), 125 VDD(3V3) (power), 133 VSSIO (power), 146 VDD(3V3) (power), 148 VSSIO (power), 165 VDD(3V3) (power), 169 VSSIO (power), 172 VSSCORE (power), 174 VDD(DCDC)(3V3) (power), 181 VDD(3V3) (power), 189 VSSIO (power), 198 VDD(3V3) (power), 200 VSSIO (power)
part I pins: 30 NC, 117 NC, 141 NC

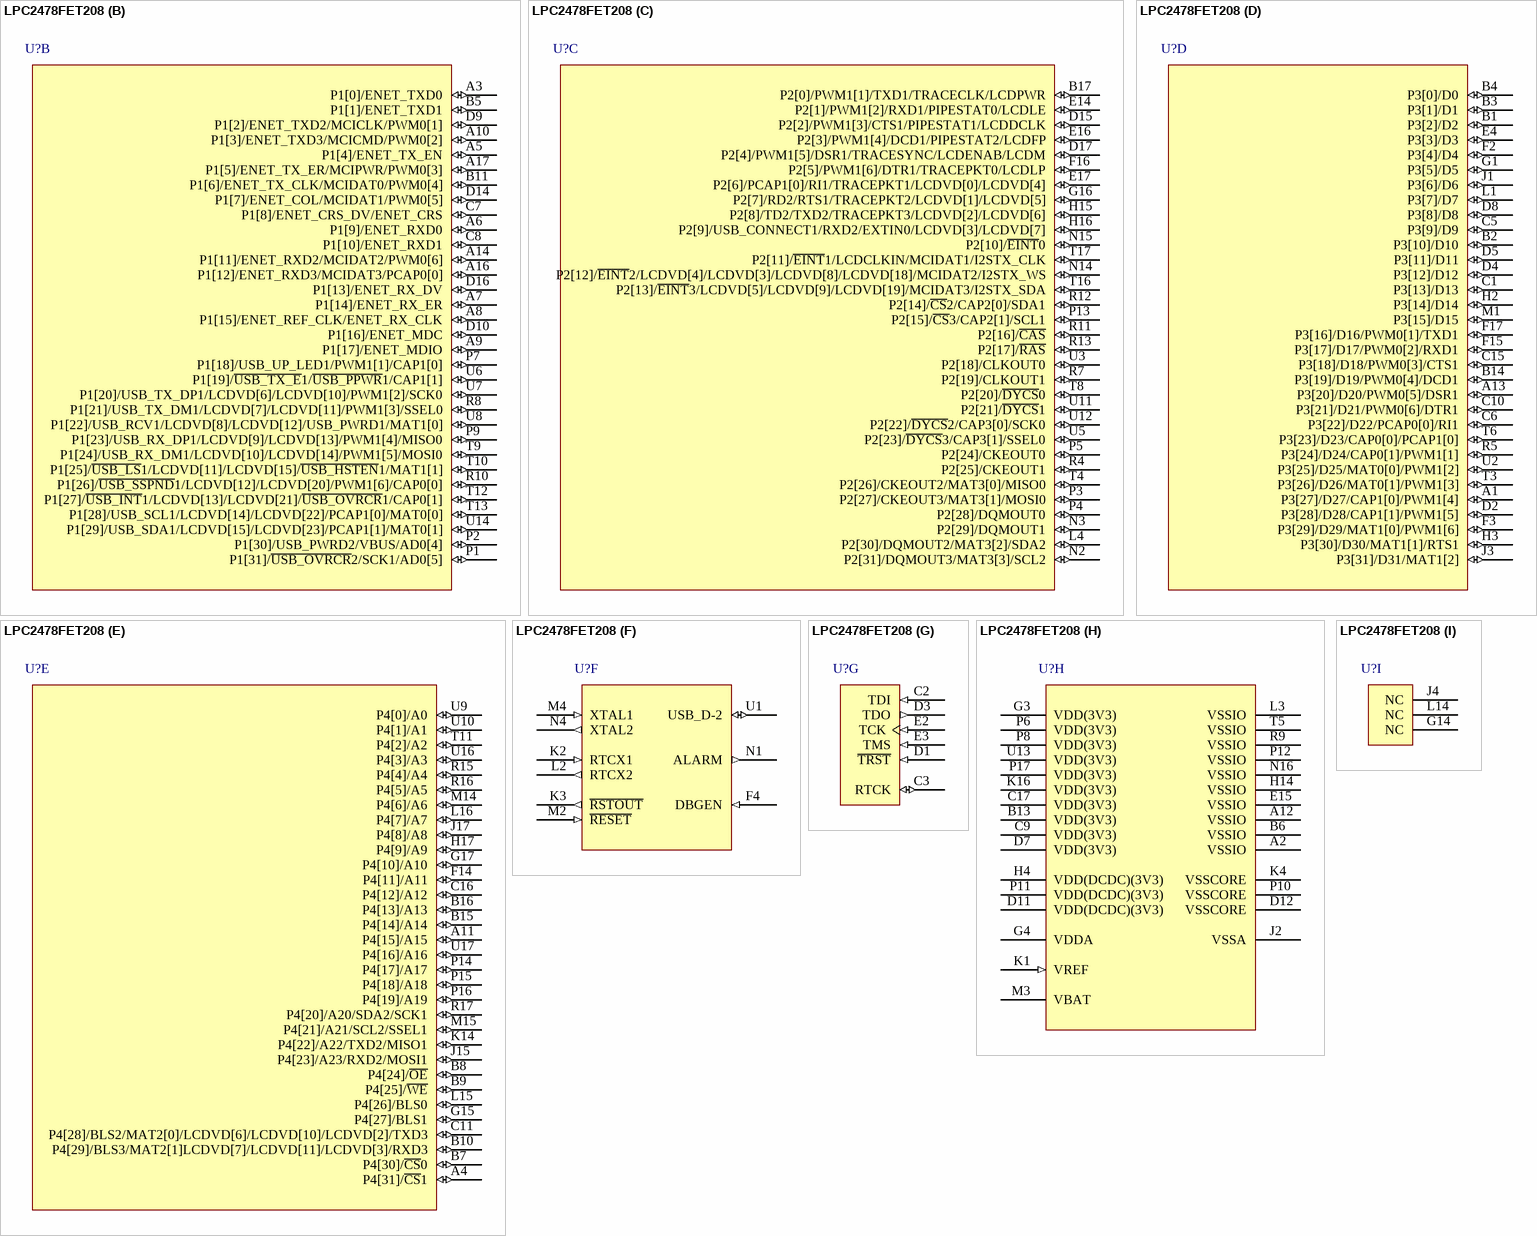
[diagram p27: symbol LPC2478FET208]